# Altium integrated library ST Microcontroller 8-Bit.IntLib: 1326 symbols (part 29 of 45)
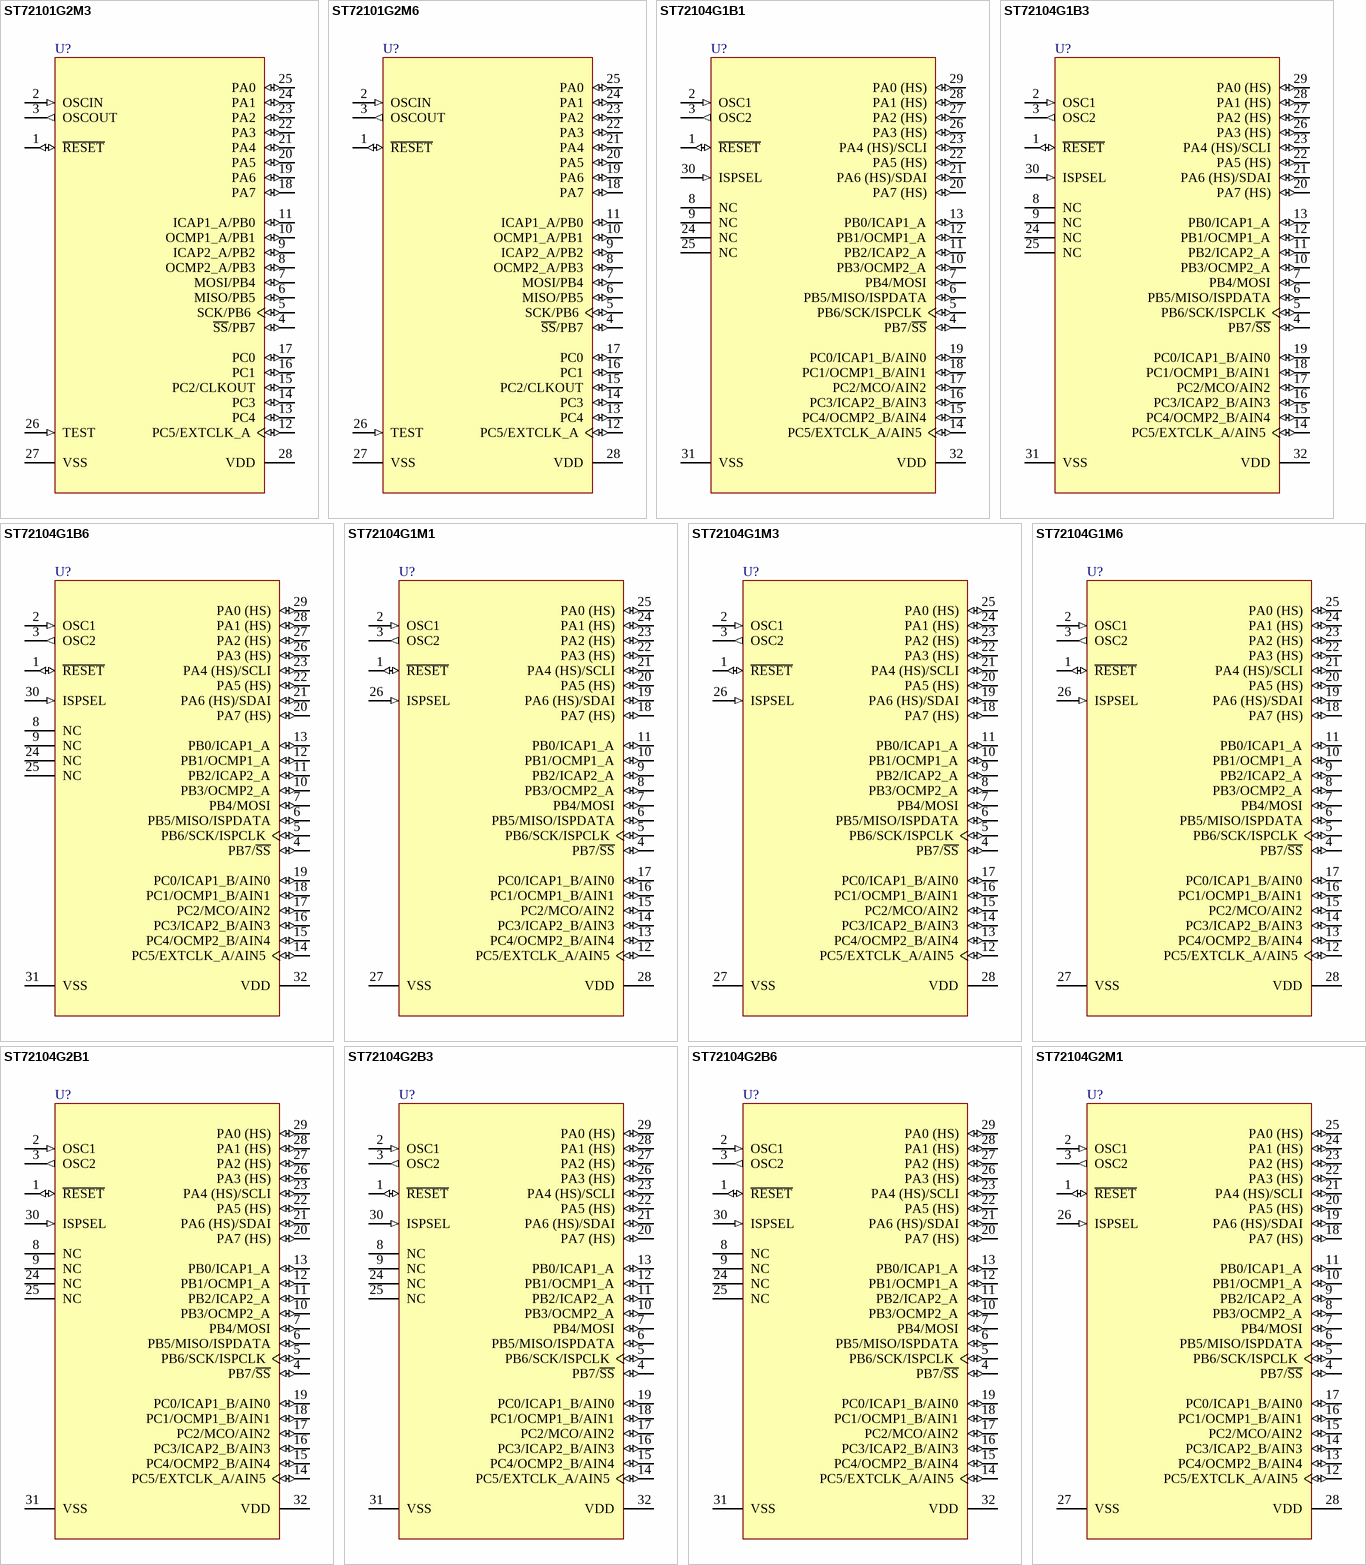
[diagram p195: symbols ST72101G2M3 to ST72104G2M1]

## ST72104G2B6
designator U?
8-Bit 8k ROM MCU, 256b RAM, WDG, 16-Bit Timer, SPI Interface, 32-Pin PDIP, Industrial; Note: Pins 4-7, 14-23 and 26-29 are External Interrupt (EI) pins.; Published: 26-May-2004; LatestRevisionDate: 06-Jun-2005; LatestRevisionNote: Stylized 3D Model Added.; DatasheetVersion: rev2.6, Nov-2000; PackageVersion: rev1.7, Oct-2001; PackageReference: PSDIP32; Publisher: Altium Limited; PackageDescription: DIP, Plastic Shrink; 32 Leads; Row Spacing 10.16 mm; Pitch 1.78 mm; ComponentLink1Description: Manufacturer Link; ComponentLink1URL: http://www.st.com/; ComponentLink2Description: Datasheet; ComponentLink2URL: http://www.st.com/stonline/products/literature/ds/6815/st72104g2.pdf
footprint PSDIP32 (DIP, Plastic Shrink; 32 Leads; Row Spacing 10.16 mm; Pitch 1.78 mm)
3D model PSDIP32 (DIP, Plastic Shrink; 32 Leads; Row Spacing 10.16 mm; Pitch 1.78 mm)
pins: 1 ~{RESET} (io), 2 OSC1 (in), 3 OSC2 (out), 4 PB7/~{SS} (io), 5 PB6/SCK/ISPCLK (io), 6 PB5/MISO/ISPDATA (io), 7 PB4/MOSI (io), 8 NC, 9 NC, 10 PB3/OCMP2_A (io), 11 PB2/ICAP2_A (io), 12 PB1/OCMP1_A (io), 13 PB0/ICAP1_A (io), 14 PC5/EXTCLK_A/AIN5 (io), 15 PC4/OCMP2_B/AIN4 (io), 16 PC3/ICAP2_B/AIN3 (io), 17 PC2/MCO/AIN2 (io), 18 PC1/OCMP1_B/AIN1 (io), 19 PC0/ICAP1_B/AIN0 (io), 20 PA7 (HS) (io), 21 PA6 (HS)/SDAI (io), 22 PA5 (HS) (io), 23 PA4 (HS)/SCLI (io), 24 NC, 25 NC, 26 PA3 (HS) (io), 27 PA2 (HS) (io), 28 PA1 (HS) (io), 29 PA0 (HS) (io), 30 ISPSEL (in), 31 VSS (power), 32 VDD (power)

## ST72104G2M1
designator U?
8-Bit 8k ROM MCU, 256b RAM, WDG, 16-Bit Timer, SPI Interface, 28-Pin SOIC, Standard; Note: Pins 4-25 are External Interrupt (EI) pins.; Published: 26-May-2004; LatestRevisionDate: 13-Apr-2006; LatestRevisionNote: IPC-7351 Footprint Added.; DatasheetVersion: rev2.6, Nov-2000; PackageVersion: Jul-2001; PackageReference: SO28; Publisher: Altium Limited; PackageDescription: 28-Pin Plastic Small Outline Integrated Circuit 1.27 mm Pitch; ComponentLink1Description: Manufacturer Link; ComponentLink1URL: http://www.st.com/; ComponentLink2Description: Datasheet; ComponentLink2URL: http://www.st.com/stonline/products/literature/ds/6815/st72104g2.pdf
footprint SO28_N (SOIC, 28-Leads, Body 17.9x7.5mm, Pitch 1.27mm, IPC Medium Density)
footprint SO28_L (SOIC, 28-Leads, Body 17.9x7.5mm, Pitch 1.27mm, IPC High Density)
footprint SO28_M (SOIC, 28-Leads, Body 17.9x7.5mm, Pitch 1.27mm, IPC Low Density)
3D model SO28 (28-Pin Plastic Small Outline Integrated Circuit 1.27 mm Pitch)
pins: 1 ~{RESET} (io), 2 OSC1 (in), 3 OSC2 (out), 4 PB7/~{SS} (io), 5 PB6/SCK/ISPCLK (io), 6 PB5/MISO/ISPDATA (io), 7 PB4/MOSI (io), 8 PB3/OCMP2_A (io), 9 PB2/ICAP2_A (io), 10 PB1/OCMP1_A (io), 11 PB0/ICAP1_A (io), 12 PC5/EXTCLK_A/AIN5 (io), 13 PC4/OCMP2_B/AIN4 (io), 14 PC3/ICAP2_B/AIN3 (io), 15 PC2/MCO/AIN2 (io), 16 PC1/OCMP1_B/AIN1 (io), 17 PC0/ICAP1_B/AIN0 (io), 18 PA7 (HS) (io), 19 PA6 (HS)/SDAI (io), 20 PA5 (HS) (io), 21 PA4 (HS)/SCLI (io), 22 PA3 (HS) (io), 23 PA2 (HS) (io), 24 PA1 (HS) (io), 25 PA0 (HS) (io), 26 ISPSEL (in), 27 VSS (power), 28 VDD (power)

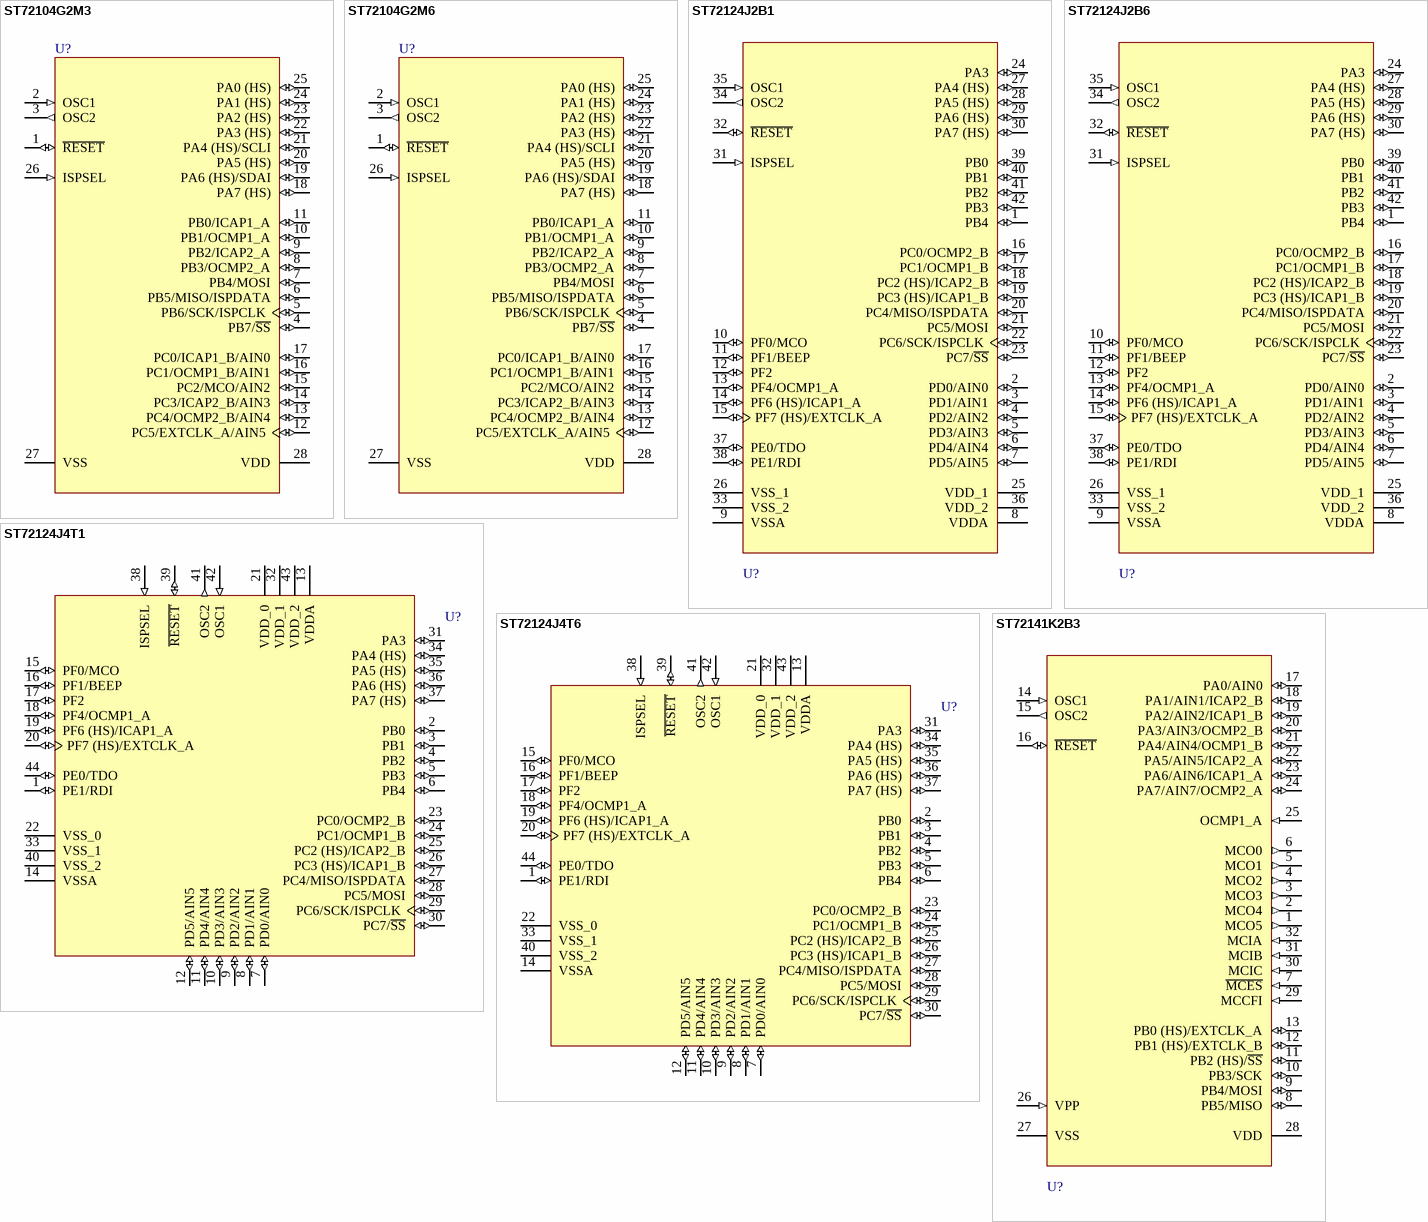
[diagram p97: symbols ST72104G2M3 to ST72141K2B3]

## ST72104G2M3
designator U?
8-Bit 8k ROM MCU, 256b RAM, WDG, 16-Bit Timer, SPI Interface, 28-Pin SOIC, Automotive; Note: Pins 4-25 are External Interrupt (EI) pins.; Published: 26-May-2004; LatestRevisionDate: 13-Apr-2006; LatestRevisionNote: IPC-7351 Footprint Added.; DatasheetVersion: rev2.6, Nov-2000; PackageVersion: Jul-2001; PackageReference: SO28; Publisher: Altium Limited; PackageDescription: 28-Pin Plastic Small Outline Integrated Circuit 1.27 mm Pitch; ComponentLink1Description: Manufacturer Link; ComponentLink1URL: http://www.st.com/; ComponentLink2Description: Datasheet; ComponentLink2URL: http://www.st.com/stonline/products/literature/ds/6815/st72104g2.pdf
footprint SO28_N (SOIC, 28-Leads, Body 17.9x7.5mm, Pitch 1.27mm, IPC Medium Density)
footprint SO28_L (SOIC, 28-Leads, Body 17.9x7.5mm, Pitch 1.27mm, IPC High Density)
footprint SO28_M (SOIC, 28-Leads, Body 17.9x7.5mm, Pitch 1.27mm, IPC Low Density)
3D model SO28 (28-Pin Plastic Small Outline Integrated Circuit 1.27 mm Pitch)
pins: 1 ~{RESET} (io), 2 OSC1 (in), 3 OSC2 (out), 4 PB7/~{SS} (io), 5 PB6/SCK/ISPCLK (io), 6 PB5/MISO/ISPDATA (io), 7 PB4/MOSI (io), 8 PB3/OCMP2_A (io), 9 PB2/ICAP2_A (io), 10 PB1/OCMP1_A (io), 11 PB0/ICAP1_A (io), 12 PC5/EXTCLK_A/AIN5 (io), 13 PC4/OCMP2_B/AIN4 (io), 14 PC3/ICAP2_B/AIN3 (io), 15 PC2/MCO/AIN2 (io), 16 PC1/OCMP1_B/AIN1 (io), 17 PC0/ICAP1_B/AIN0 (io), 18 PA7 (HS) (io), 19 PA6 (HS)/SDAI (io), 20 PA5 (HS) (io), 21 PA4 (HS)/SCLI (io), 22 PA3 (HS) (io), 23 PA2 (HS) (io), 24 PA1 (HS) (io), 25 PA0 (HS) (io), 26 ISPSEL (in), 27 VSS (power), 28 VDD (power)

## ST72104G2M6
designator U?
8-Bit 8k ROM MCU, 256b RAM, WDG, 16-Bit Timer, SPI Interface, 28-Pin SOIC, Industrial; Note: Pins 4-25 are External Interrupt (EI) pins.; Published: 26-May-2004; LatestRevisionDate: 13-Apr-2006; LatestRevisionNote: IPC-7351 Footprint Added.; DatasheetVersion: rev2.6, Nov-2000; PackageVersion: Jul-2001; PackageReference: SO28; Publisher: Altium Limited; PackageDescription: 28-Pin Plastic Small Outline Integrated Circuit 1.27 mm Pitch; ComponentLink1Description: Manufacturer Link; ComponentLink1URL: http://www.st.com/; ComponentLink2Description: Datasheet; ComponentLink2URL: http://www.st.com/stonline/products/literature/ds/6815/st72104g2.pdf
footprint SO28_N (SOIC, 28-Leads, Body 17.9x7.5mm, Pitch 1.27mm, IPC Medium Density)
footprint SO28_L (SOIC, 28-Leads, Body 17.9x7.5mm, Pitch 1.27mm, IPC High Density)
footprint SO28_M (SOIC, 28-Leads, Body 17.9x7.5mm, Pitch 1.27mm, IPC Low Density)
3D model SO28 (28-Pin Plastic Small Outline Integrated Circuit 1.27 mm Pitch)
pins: 1 ~{RESET} (io), 2 OSC1 (in), 3 OSC2 (out), 4 PB7/~{SS} (io), 5 PB6/SCK/ISPCLK (io), 6 PB5/MISO/ISPDATA (io), 7 PB4/MOSI (io), 8 PB3/OCMP2_A (io), 9 PB2/ICAP2_A (io), 10 PB1/OCMP1_A (io), 11 PB0/ICAP1_A (io), 12 PC5/EXTCLK_A/AIN5 (io), 13 PC4/OCMP2_B/AIN4 (io), 14 PC3/ICAP2_B/AIN3 (io), 15 PC2/MCO/AIN2 (io), 16 PC1/OCMP1_B/AIN1 (io), 17 PC0/ICAP1_B/AIN0 (io), 18 PA7 (HS) (io), 19 PA6 (HS)/SDAI (io), 20 PA5 (HS) (io), 21 PA4 (HS)/SCLI (io), 22 PA3 (HS) (io), 23 PA2 (HS) (io), 24 PA1 (HS) (io), 25 PA0 (HS) (io), 26 ISPSEL (in), 27 VSS (power), 28 VDD (power)

## ST72124J2B1
designator U?
8-Bit MCU with 8k ROM, 384b RAM, 16-Bit Timers, SPI and SCI Interface, 42-Pin PDIP, Standard; Note: Pins 1, 10-12, 24 and 39-42 are External Interrupt (EI) pins.; Published: 26-May-2004; LatestRevisionDate: 06-Jun-2005; LatestRevisionNote: Stylized 3D Model Added.; DatasheetVersion: rev2.5, Apr-2003; PackageVersion: Oct-2003; PackageReference: PSDIP42; Publisher: Altium Limited; PackageDescription: DIP, Plastic Shrink; 42 Leads; Row Spacing 15.24 mm; Pitch 1.78 mm; ComponentLink1Description: Manufacturer Link; ComponentLink1URL: http://www.st.com/; ComponentLink2Description: Datasheet; ComponentLink2URL: http://www.st.com/stonline/products/literature/ds/6816/st72124j2.pdf
footprint PSDIP42 (DIP, Plastic Shrink; 42 Leads; Row Spacing 15.24 mm; Pitch 1.78 mm)
3D model PSDIP42 (DIP, Plastic Shrink; 42 Leads; Row Spacing 15.24 mm; Pitch 1.78 mm)
pins: 1 PB4 (io), 2 PD0/AIN0 (io), 3 PD1/AIN1 (io), 4 PD2/AIN2 (io), 5 PD3/AIN3 (io), 6 PD4/AIN4 (io), 7 PD5/AIN5 (io), 8 VDDA (power), 9 VSSA (power), 10 PF0/MCO (io), 11 PF1/BEEP (io), 12 PF2 (io), 13 PF4/OCMP1_A (io), 14 PF6 (HS)/ICAP1_A (io), 15 PF7 (HS)/EXTCLK_A (io), 16 PC0/OCMP2_B (io), 17 PC1/OCMP1_B (io), 18 PC2 (HS)/ICAP2_B (io), 19 PC3 (HS)/ICAP1_B (io), 20 PC4/MISO/ISPDATA (io), 21 PC5/MOSI (io), 22 PC6/SCK/ISPCLK (io), 23 PC7/~{SS} (io), 24 PA3 (io), 25 VDD_1 (power), 26 VSS_1 (power), 27 PA4 (HS) (io), 28 PA5 (HS) (io), 29 PA6 (HS) (io), 30 PA7 (HS) (io), 31 ISPSEL (in), 32 ~{RESET} (io), 33 VSS_2 (power), 34 OSC2 (out), 35 OSC1 (in), 36 VDD_2 (power), 37 PE0/TDO (io), 38 PE1/RDI (io), 39 PB0 (io), 40 PB1 (io), 41 PB2 (io), 42 PB3 (io)

## ST72124J2B6
designator U?
8-Bit MCU with 8k ROM, 384b RAM, 16-Bit Timers, SPI and SCI Interface, 42-Pin PDIP, Industrial; Note: Pins 1, 10-12, 24 and 39-42 are External Interrupt (EI) pins.; Published: 26-May-2004; LatestRevisionDate: 06-Jun-2005; LatestRevisionNote: Stylized 3D Model Added.; DatasheetVersion: rev2.5, Apr-2003; PackageVersion: Oct-2003; PackageReference: PSDIP42; Publisher: Altium Limited; PackageDescription: DIP, Plastic Shrink; 42 Leads; Row Spacing 15.24 mm; Pitch 1.78 mm; ComponentLink1Description: Manufacturer Link; ComponentLink1URL: http://www.st.com/; ComponentLink2Description: Datasheet; ComponentLink2URL: http://www.st.com/stonline/products/literature/ds/6816/st72124j2.pdf
footprint PSDIP42 (DIP, Plastic Shrink; 42 Leads; Row Spacing 15.24 mm; Pitch 1.78 mm)
3D model PSDIP42 (DIP, Plastic Shrink; 42 Leads; Row Spacing 15.24 mm; Pitch 1.78 mm)
pins: 1 PB4 (io), 2 PD0/AIN0 (io), 3 PD1/AIN1 (io), 4 PD2/AIN2 (io), 5 PD3/AIN3 (io), 6 PD4/AIN4 (io), 7 PD5/AIN5 (io), 8 VDDA (power), 9 VSSA (power), 10 PF0/MCO (io), 11 PF1/BEEP (io), 12 PF2 (io), 13 PF4/OCMP1_A (io), 14 PF6 (HS)/ICAP1_A (io), 15 PF7 (HS)/EXTCLK_A (io), 16 PC0/OCMP2_B (io), 17 PC1/OCMP1_B (io), 18 PC2 (HS)/ICAP2_B (io), 19 PC3 (HS)/ICAP1_B (io), 20 PC4/MISO/ISPDATA (io), 21 PC5/MOSI (io), 22 PC6/SCK/ISPCLK (io), 23 PC7/~{SS} (io), 24 PA3 (io), 25 VDD_1 (power), 26 VSS_1 (power), 27 PA4 (HS) (io), 28 PA5 (HS) (io), 29 PA6 (HS) (io), 30 PA7 (HS) (io), 31 ISPSEL (in), 32 ~{RESET} (io), 33 VSS_2 (power), 34 OSC2 (out), 35 OSC1 (in), 36 VDD_2 (power), 37 PE0/TDO (io), 38 PE1/RDI (io), 39 PB0 (io), 40 PB1 (io), 41 PB2 (io), 42 PB3 (io)

## ST72124J4T1
designator U?
8-Bit MCU with 8k ROM, 384b RAM, 16-Bit Timers, SPI and SCI Interface, 44-Pin TQFP, Standard; Note: Pins 2-6, 15-17 and 31 are External Interrupt (EI) pins.; Published: 26-May-2004; LatestRevisionDate: 13-Apr-2006; LatestRevisionNote: IPC-7351 Footprint Added.; DatasheetVersion: rev2.5, Apr-2003; PackageVersion: Oct-2003; PackageReference: TQFP44; Publisher: Altium Limited; PackageDescription: 44-Pin Thin Plastic Quad Flat Pack 0.8 mm Pitch; ComponentLink1Description: Manufacturer Link; ComponentLink1URL: http://www.st.com/; ComponentLink2Description: Datasheet; ComponentLink2URL: http://www.st.com/stonline/products/literature/ds/6816/st72124j2.pdf
footprint TQFP44_N (Thin QFP, 44-Leads, Body 10x10mm, Pitch 0.8mm, IPC Medium Density)
footprint TQFP44_L (Thin QFP, 44-Leads, Body 10x10mm, Pitch 0.8mm, IPC High Density)
footprint TQFP44_M (Thin QFP, 44-Leads, Body 10x10mm, Pitch 0.8mm, IPC Low Density)
3D model ST72124-TQFP44 (44-Pin Thin Plastic Quad Flat Pack 0.8 mm Pitch)
pins: 1 PE1/RDI (io), 2 PB0 (io), 3 PB1 (io), 4 PB2 (io), 5 PB3 (io), 6 PB4 (io), 7 PD0/AIN0 (io), 8 PD1/AIN1 (io), 9 PD2/AIN2 (io), 10 PD3/AIN3 (io), 11 PD4/AIN4 (io), 12 PD5/AIN5 (io), 13 VDDA (power), 14 VSSA (power), 15 PF0/MCO (io), 16 PF1/BEEP (io), 17 PF2 (io), 18 PF4/OCMP1_A (io), 19 PF6 (HS)/ICAP1_A (io), 20 PF7 (HS)/EXTCLK_A (io), 21 VDD_0 (power), 22 VSS_0 (power), 23 PC0/OCMP2_B (io), 24 PC1/OCMP1_B (io), 25 PC2 (HS)/ICAP2_B (io), 26 PC3 (HS)/ICAP1_B (io), 27 PC4/MISO/ISPDATA (io), 28 PC5/MOSI (io), 29 PC6/SCK/ISPCLK (io), 30 PC7/~{SS} (io), 31 PA3 (io), 32 VDD_1 (power), 33 VSS_1 (power), 34 PA4 (HS) (io), 35 PA5 (HS) (io), 36 PA6 (HS) (io), 37 PA7 (HS) (io), 38 ISPSEL (in), 39 ~{RESET} (io), 40 VSS_2 (power), 41 OSC2 (out), 42 OSC1 (in), 43 VDD_2 (power), 44 PE0/TDO (io)

## ST72124J4T6
designator U?
8-Bit MCU with 8k ROM, 384b RAM, 16-Bit Timers, SPI and SCI Interface, 44-Pin TQFP, Industrial; Note: Pins 2-6, 15-17 and 31 are External Interrupt (EI) pins.; Published: 26-May-2004; LatestRevisionDate: 13-Apr-2006; LatestRevisionNote: IPC-7351 Footprint Added.; DatasheetVersion: rev2.5, Apr-2003; PackageVersion: Oct-2003; PackageReference: TQFP44; Publisher: Altium Limited; PackageDescription: 44-Pin Thin Plastic Quad Flat Pack 0.8 mm Pitch; ComponentLink1Description: Manufacturer Link; ComponentLink1URL: http://www.st.com/; ComponentLink2Description: Datasheet; ComponentLink2URL: http://www.st.com/stonline/products/literature/ds/6816/st72124j2.pdf
footprint TQFP44_N (Thin QFP, 44-Leads, Body 10x10mm, Pitch 0.8mm, IPC Medium Density)
footprint TQFP44_L (Thin QFP, 44-Leads, Body 10x10mm, Pitch 0.8mm, IPC High Density)
footprint TQFP44_M (Thin QFP, 44-Leads, Body 10x10mm, Pitch 0.8mm, IPC Low Density)
3D model ST72124-TQFP44 (44-Pin Thin Plastic Quad Flat Pack 0.8 mm Pitch)
pins: 1 PE1/RDI (io), 2 PB0 (io), 3 PB1 (io), 4 PB2 (io), 5 PB3 (io), 6 PB4 (io), 7 PD0/AIN0 (io), 8 PD1/AIN1 (io), 9 PD2/AIN2 (io), 10 PD3/AIN3 (io), 11 PD4/AIN4 (io), 12 PD5/AIN5 (io), 13 VDDA (power), 14 VSSA (power), 15 PF0/MCO (io), 16 PF1/BEEP (io), 17 PF2 (io), 18 PF4/OCMP1_A (io), 19 PF6 (HS)/ICAP1_A (io), 20 PF7 (HS)/EXTCLK_A (io), 21 VDD_0 (power), 22 VSS_0 (power), 23 PC0/OCMP2_B (io), 24 PC1/OCMP1_B (io), 25 PC2 (HS)/ICAP2_B (io), 26 PC3 (HS)/ICAP1_B (io), 27 PC4/MISO/ISPDATA (io), 28 PC5/MOSI (io), 29 PC6/SCK/ISPCLK (io), 30 PC7/~{SS} (io), 31 PA3 (io), 32 VDD_1 (power), 33 VSS_1 (power), 34 PA4 (HS) (io), 35 PA5 (HS) (io), 36 PA6 (HS) (io), 37 PA7 (HS) (io), 38 ISPSEL (in), 39 ~{RESET} (io), 40 VSS_2 (power), 41 OSC2 (out), 42 OSC1 (in), 43 VDD_2 (power), 44 PE0/TDO (io)

## ST72141K2B3
designator U?
8-Bit 8k ROM MCU with Electric Motor Control, ADC, 16-Bit Timers, SPI Interface, 32-Pin PDIP, Automotive; Note: Pins 8-13 and 17-24 are External Interrupt (EI) pins.; Published: 26-May-2004; LatestRevisionDate: 06-Jun-2005; LatestRevisionNote: Stylized 3D Model Added.; DatasheetVersion: rev1.8, Oct-2001; PackageVersion: rev1.7, Oct-2001; PackageReference: PSDIP32; Publisher: Altium Limited; PackageDescription: DIP, Plastic Shrink; 32 Leads; Row Spacing 10.16 mm; Pitch 1.78 mm; ComponentLink1Description: Manufacturer Link; ComponentLink1URL: http://www.st.com/; ComponentLink2Description: Datasheet; ComponentLink2URL: http://www.st.com/stonline/products/literature/ds/6342/st72141k2.pdf
footprint PSDIP32 (DIP, Plastic Shrink; 32 Leads; Row Spacing 10.16 mm; Pitch 1.78 mm)
3D model PSDIP32 (DIP, Plastic Shrink; 32 Leads; Row Spacing 10.16 mm; Pitch 1.78 mm)
pins: 1 MCO5 (out), 2 MCO4 (out), 3 MCO3 (out), 4 MCO2 (out), 5 MCO1 (out), 6 MCO0 (out), 7 ~{MCES} (in), 8 PB5/MISO (io), 9 PB4/MOSI (io), 10 PB3/SCK (io), 11 PB2 (HS)/~{SS} (io), 12 PB1 (HS)/EXTCLK_B (io), 13 PB0 (HS)/EXTCLK_A (io), 14 OSC1 (in), 15 OSC2 (out), 16 ~{RESET} (io), 17 PA0/AIN0 (io), 18 PA1/AIN1/ICAP2_B (io), 19 PA2/AIN2/ICAP1_B (io), 20 PA3/AIN3/OCMP2_B (io), 21 PA4/AIN4/OCMP1_B (io), 22 PA5/AIN5/ICAP2_A (io), 23 PA6/AIN6/ICAP1_A (io), 24 PA7/AIN7/OCMP2_A (io), 25 OCMP1_A (in), 26 VPP (in), 27 VSS (power), 28 VDD (power), 29 MCCFI (in), 30 MCIC (in), 31 MCIB (in), 32 MCIA (in)

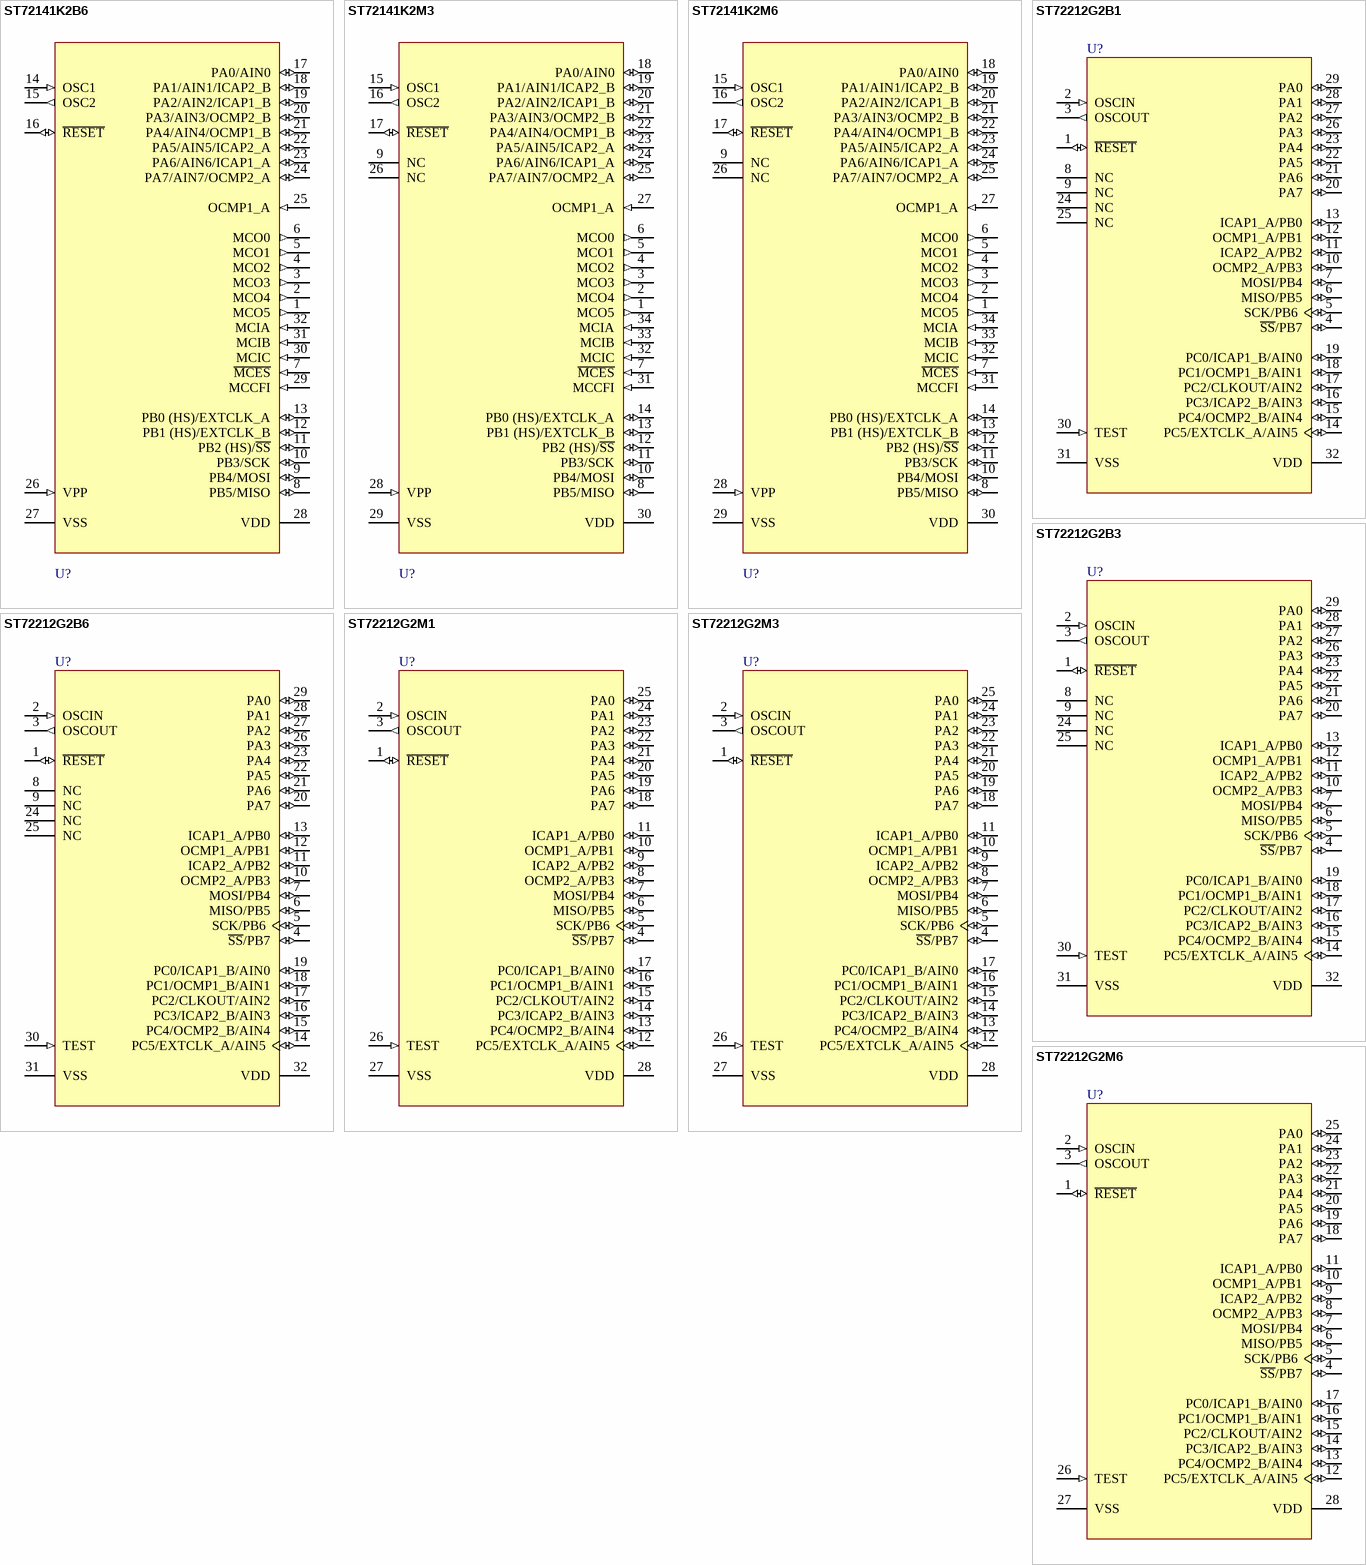
[diagram p98: symbols ST72141K2B6 to ST72212G2M6]

## ST72141K2B6
designator U?
8-Bit 8k ROM MCU with Electric Motor Control, ADC, 16-Bit Timers, SPI Interface, 32-Pin PDIP, Industrial; Note: Pins 8-13 and 17-24 are External Interrupt (EI) pins.; Published: 26-May-2004; LatestRevisionDate: 06-Jun-2005; LatestRevisionNote: Stylized 3D Model Added.; DatasheetVersion: rev1.8, Oct-2001; PackageVersion: rev1.7, Oct-2001; PackageReference: PSDIP32; Publisher: Altium Limited; PackageDescription: DIP, Plastic Shrink; 32 Leads; Row Spacing 10.16 mm; Pitch 1.78 mm; ComponentLink1Description: Manufacturer Link; ComponentLink1URL: http://www.st.com/; ComponentLink2Description: Datasheet; ComponentLink2URL: http://www.st.com/stonline/products/literature/ds/6342/st72141k2.pdf
footprint PSDIP32 (DIP, Plastic Shrink; 32 Leads; Row Spacing 10.16 mm; Pitch 1.78 mm)
3D model PSDIP32 (DIP, Plastic Shrink; 32 Leads; Row Spacing 10.16 mm; Pitch 1.78 mm)
pins: 1 MCO5 (out), 2 MCO4 (out), 3 MCO3 (out), 4 MCO2 (out), 5 MCO1 (out), 6 MCO0 (out), 7 ~{MCES} (in), 8 PB5/MISO (io), 9 PB4/MOSI (io), 10 PB3/SCK (io), 11 PB2 (HS)/~{SS} (io), 12 PB1 (HS)/EXTCLK_B (io), 13 PB0 (HS)/EXTCLK_A (io), 14 OSC1 (in), 15 OSC2 (out), 16 ~{RESET} (io), 17 PA0/AIN0 (io), 18 PA1/AIN1/ICAP2_B (io), 19 PA2/AIN2/ICAP1_B (io), 20 PA3/AIN3/OCMP2_B (io), 21 PA4/AIN4/OCMP1_B (io), 22 PA5/AIN5/ICAP2_A (io), 23 PA6/AIN6/ICAP1_A (io), 24 PA7/AIN7/OCMP2_A (io), 25 OCMP1_A (in), 26 VPP (in), 27 VSS (power), 28 VDD (power), 29 MCCFI (in), 30 MCIC (in), 31 MCIB (in), 32 MCIA (in)

## ST72141K2M3
designator U?
8-Bit 8k ROM MCU with Electric Motor Control, ADC, 16-Bit Timers, SPI Interface, 34-Pin SOIC, Automotive; Note: Pins 8, 10-14 and 18-25 are External Interrupt (EI) pins.; Published: 26-May-2004; LatestRevisionDate: 13-Apr-2006; LatestRevisionNote: IPC-7351 Footprint Added.; DatasheetVersion: rev1.8, Oct-2001; PackageVersion: rev1.7, Oct-2001; PackageReference: SO34S; Publisher: Altium Limited; PackageDescription: 34-Pin Small Outline Package 1.02 mm Pitch; ComponentLink1Description: Manufacturer Link; ComponentLink1URL: http://www.st.com/; ComponentLink2Description: Datasheet; ComponentLink2URL: http://www.st.com/stonline/products/literature/ds/6342/st72141k2.pdf
footprint SO34S_N (SOP, 34-Leads, Body 17.9x7.51mm, Pitch 1.02mm, IPC Medium Density)
footprint SO34S_L (SOP, 34-Leads, Body 17.9x7.51mm, Pitch 1.02mm, IPC High Density)
footprint SO34S_M (SOP, 34-Leads, Body 17.9x7.51mm, Pitch 1.02mm, IPC Low Density)
3D model SO34S (34-Pin Small Outline Package 1.02 mm Pitch)
pins: 1 MCO5 (out), 2 MCO4 (out), 3 MCO3 (out), 4 MCO2 (out), 5 MCO1 (out), 6 MCO0 (out), 7 ~{MCES} (in), 8 PB5/MISO (io), 9 NC, 10 PB4/MOSI (io), 11 PB3/SCK (io), 12 PB2 (HS)/~{SS} (io), 13 PB1 (HS)/EXTCLK_B (io), 14 PB0 (HS)/EXTCLK_A (io), 15 OSC1 (in), 16 OSC2 (out), 17 ~{RESET} (io), 18 PA0/AIN0 (io), 19 PA1/AIN1/ICAP2_B (io), 20 PA2/AIN2/ICAP1_B (io), 21 PA3/AIN3/OCMP2_B (io), 22 PA4/AIN4/OCMP1_B (io), 23 PA5/AIN5/ICAP2_A (io), 24 PA6/AIN6/ICAP1_A (io), 25 PA7/AIN7/OCMP2_A (io), 26 NC, 27 OCMP1_A (in), 28 VPP (in), 29 VSS (power), 30 VDD (power), 31 MCCFI (in), 32 MCIC (in), 33 MCIB (in), 34 MCIA (in)

## ST72141K2M6
designator U?
8-Bit 8k ROM MCU with Electric Motor Control, ADC, 16-Bit Timers, SPI Interface, 34-Pin SOIC, Industrial; Note: Pins 8, 10-14 and 18-25 are External Interrupt (EI) pins.; Published: 26-May-2004; LatestRevisionDate: 13-Apr-2006; LatestRevisionNote: IPC-7351 Footprint Added.; DatasheetVersion: rev1.8, Oct-2001; PackageVersion: rev1.7, Oct-2001; PackageReference: SO34S; Publisher: Altium Limited; PackageDescription: 34-Pin Small Outline Package 1.02 mm Pitch; ComponentLink1Description: Manufacturer Link; ComponentLink1URL: http://www.st.com/; ComponentLink2Description: Datasheet; ComponentLink2URL: http://www.st.com/stonline/products/literature/ds/6342/st72141k2.pdf
footprint SO34S_N (SOP, 34-Leads, Body 17.9x7.51mm, Pitch 1.02mm, IPC Medium Density)
footprint SO34S_L (SOP, 34-Leads, Body 17.9x7.51mm, Pitch 1.02mm, IPC High Density)
footprint SO34S_M (SOP, 34-Leads, Body 17.9x7.51mm, Pitch 1.02mm, IPC Low Density)
3D model SO34S (34-Pin Small Outline Package 1.02 mm Pitch)
pins: 1 MCO5 (out), 2 MCO4 (out), 3 MCO3 (out), 4 MCO2 (out), 5 MCO1 (out), 6 MCO0 (out), 7 ~{MCES} (in), 8 PB5/MISO (io), 9 NC, 10 PB4/MOSI (io), 11 PB3/SCK (io), 12 PB2 (HS)/~{SS} (io), 13 PB1 (HS)/EXTCLK_B (io), 14 PB0 (HS)/EXTCLK_A (io), 15 OSC1 (in), 16 OSC2 (out), 17 ~{RESET} (io), 18 PA0/AIN0 (io), 19 PA1/AIN1/ICAP2_B (io), 20 PA2/AIN2/ICAP1_B (io), 21 PA3/AIN3/OCMP2_B (io), 22 PA4/AIN4/OCMP1_B (io), 23 PA5/AIN5/ICAP2_A (io), 24 PA6/AIN6/ICAP1_A (io), 25 PA7/AIN7/OCMP2_A (io), 26 NC, 27 OCMP1_A (in), 28 VPP (in), 29 VSS (power), 30 VDD (power), 31 MCCFI (in), 32 MCIC (in), 33 MCIB (in), 34 MCIA (in)

## ST72212G2B1
designator U?
8-Bit 8k ROM MCU with 256b RAM, ADC, WDG, SPI and Two Timers, 32-Pin PDIP, Standard; Published: 26-May-2004; LatestRevisionDate: 06-Jun-2005; LatestRevisionNote: Stylized 3D Model Added.; DatasheetVersion: rev1.8, May-2001; PackageVersion: rev1.7, Oct-2001; PackageReference: PSDIP32; Publisher: Altium Limited; PackageDescription: DIP, Plastic Shrink; 32 Leads; Row Spacing 10.16 mm; Pitch 1.78 mm; ComponentLink1Description: Manufacturer Link; ComponentLink1URL: http://www.st.com/; ComponentLink2Description: Datasheet; ComponentLink2URL: http://www.st.com/stonline/products/literature/ds/5762/st72212g2.pdf
footprint PSDIP32 (DIP, Plastic Shrink; 32 Leads; Row Spacing 10.16 mm; Pitch 1.78 mm)
3D model PSDIP32 (DIP, Plastic Shrink; 32 Leads; Row Spacing 10.16 mm; Pitch 1.78 mm)
pins: 1 ~{RESET} (io), 2 OSCIN (in), 3 OSCOUT (out), 4 ~{SS}/PB7 (io), 5 SCK/PB6 (io), 6 MISO/PB5 (io), 7 MOSI/PB4 (io), 8 NC, 9 NC, 10 OCMP2_A/PB3 (io), 11 ICAP2_A/PB2 (io), 12 OCMP1_A/PB1 (io), 13 ICAP1_A/PB0 (io), 14 PC5/EXTCLK_A/AIN5 (io), 15 PC4/OCMP2_B/AIN4 (io), 16 PC3/ICAP2_B/AIN3 (io), 17 PC2/CLKOUT/AIN2 (io), 18 PC1/OCMP1_B/AIN1 (io), 19 PC0/ICAP1_B/AIN0 (io), 20 PA7 (io), 21 PA6 (io), 22 PA5 (io), 23 PA4 (io), 24 NC, 25 NC, 26 PA3 (io), 27 PA2 (io), 28 PA1 (io), 29 PA0 (io), 30 TEST (in), 31 VSS (power), 32 VDD (power)

## ST72212G2B3
designator U?
8-Bit 8k ROM MCU with 256b RAM, ADC, WDG, SPI and Two Timers, 32-Pin PDIP, Automotive; Published: 26-May-2004; LatestRevisionDate: 06-Jun-2005; LatestRevisionNote: Stylized 3D Model Added.; DatasheetVersion: rev1.8, May-2001; PackageVersion: rev1.7, Oct-2001; PackageReference: PSDIP32; Publisher: Altium Limited; PackageDescription: DIP, Plastic Shrink; 32 Leads; Row Spacing 10.16 mm; Pitch 1.78 mm; ComponentLink1Description: Manufacturer Link; ComponentLink1URL: http://www.st.com/; ComponentLink2Description: Datasheet; ComponentLink2URL: http://www.st.com/stonline/products/literature/ds/5762/st72212g2.pdf
footprint PSDIP32 (DIP, Plastic Shrink; 32 Leads; Row Spacing 10.16 mm; Pitch 1.78 mm)
3D model PSDIP32 (DIP, Plastic Shrink; 32 Leads; Row Spacing 10.16 mm; Pitch 1.78 mm)
pins: 1 ~{RESET} (io), 2 OSCIN (in), 3 OSCOUT (out), 4 ~{SS}/PB7 (io), 5 SCK/PB6 (io), 6 MISO/PB5 (io), 7 MOSI/PB4 (io), 8 NC, 9 NC, 10 OCMP2_A/PB3 (io), 11 ICAP2_A/PB2 (io), 12 OCMP1_A/PB1 (io), 13 ICAP1_A/PB0 (io), 14 PC5/EXTCLK_A/AIN5 (io), 15 PC4/OCMP2_B/AIN4 (io), 16 PC3/ICAP2_B/AIN3 (io), 17 PC2/CLKOUT/AIN2 (io), 18 PC1/OCMP1_B/AIN1 (io), 19 PC0/ICAP1_B/AIN0 (io), 20 PA7 (io), 21 PA6 (io), 22 PA5 (io), 23 PA4 (io), 24 NC, 25 NC, 26 PA3 (io), 27 PA2 (io), 28 PA1 (io), 29 PA0 (io), 30 TEST (in), 31 VSS (power), 32 VDD (power)

## ST72212G2B6
designator U?
8-Bit 8k ROM MCU with 256b RAM, ADC, WDG, SPI and Two Timers, 32-Pin PDIP, Industrial; Published: 26-May-2004; LatestRevisionDate: 06-Jun-2005; LatestRevisionNote: Stylized 3D Model Added.; DatasheetVersion: rev1.8, May-2001; PackageVersion: rev1.7, Oct-2001; PackageReference: PSDIP32; Publisher: Altium Limited; PackageDescription: DIP, Plastic Shrink; 32 Leads; Row Spacing 10.16 mm; Pitch 1.78 mm; ComponentLink1Description: Manufacturer Link; ComponentLink1URL: http://www.st.com/; ComponentLink2Description: Datasheet; ComponentLink2URL: http://www.st.com/stonline/products/literature/ds/5762/st72212g2.pdf
footprint PSDIP32 (DIP, Plastic Shrink; 32 Leads; Row Spacing 10.16 mm; Pitch 1.78 mm)
3D model PSDIP32 (DIP, Plastic Shrink; 32 Leads; Row Spacing 10.16 mm; Pitch 1.78 mm)
pins: 1 ~{RESET} (io), 2 OSCIN (in), 3 OSCOUT (out), 4 ~{SS}/PB7 (io), 5 SCK/PB6 (io), 6 MISO/PB5 (io), 7 MOSI/PB4 (io), 8 NC, 9 NC, 10 OCMP2_A/PB3 (io), 11 ICAP2_A/PB2 (io), 12 OCMP1_A/PB1 (io), 13 ICAP1_A/PB0 (io), 14 PC5/EXTCLK_A/AIN5 (io), 15 PC4/OCMP2_B/AIN4 (io), 16 PC3/ICAP2_B/AIN3 (io), 17 PC2/CLKOUT/AIN2 (io), 18 PC1/OCMP1_B/AIN1 (io), 19 PC0/ICAP1_B/AIN0 (io), 20 PA7 (io), 21 PA6 (io), 22 PA5 (io), 23 PA4 (io), 24 NC, 25 NC, 26 PA3 (io), 27 PA2 (io), 28 PA1 (io), 29 PA0 (io), 30 TEST (in), 31 VSS (power), 32 VDD (power)

## ST72212G2M1
designator U?
8-Bit 8k ROM MCU with 256b RAM, ADC, WDG, SPI and Two Timers, 28-Pin SOIC, Standard; Published: 26-May-2004; LatestRevisionDate: 13-Apr-2006; LatestRevisionNote: IPC-7351 Footprint Added.; DatasheetVersion: rev1.8, May-2001; PackageVersion: Jul-2001; PackageReference: SO28; Publisher: Altium Limited; PackageDescription: 28-Pin Plastic Small Outline Integrated Circuit 1.27 mm Pitch; ComponentLink1Description: Manufacturer Link; ComponentLink1URL: http://www.st.com/; ComponentLink2Description: Datasheet; ComponentLink2URL: http://www.st.com/stonline/products/literature/ds/5762/st72212g2.pdf
footprint SO28_N (SOIC, 28-Leads, Body 17.9x7.5mm, Pitch 1.27mm, IPC Medium Density)
footprint SO28_L (SOIC, 28-Leads, Body 17.9x7.5mm, Pitch 1.27mm, IPC High Density)
footprint SO28_M (SOIC, 28-Leads, Body 17.9x7.5mm, Pitch 1.27mm, IPC Low Density)
3D model SO28 (28-Pin Plastic Small Outline Integrated Circuit 1.27 mm Pitch)
pins: 1 ~{RESET} (io), 2 OSCIN (in), 3 OSCOUT (out), 4 ~{SS}/PB7 (io), 5 SCK/PB6 (io), 6 MISO/PB5 (io), 7 MOSI/PB4 (io), 8 OCMP2_A/PB3 (io), 9 ICAP2_A/PB2 (io), 10 OCMP1_A/PB1 (io), 11 ICAP1_A/PB0 (io), 12 PC5/EXTCLK_A/AIN5 (io), 13 PC4/OCMP2_B/AIN4 (io), 14 PC3/ICAP2_B/AIN3 (io), 15 PC2/CLKOUT/AIN2 (io), 16 PC1/OCMP1_B/AIN1 (io), 17 PC0/ICAP1_B/AIN0 (io), 18 PA7 (io), 19 PA6 (io), 20 PA5 (io), 21 PA4 (io), 22 PA3 (io), 23 PA2 (io), 24 PA1 (io), 25 PA0 (io), 26 TEST (in), 27 VSS (power), 28 VDD (power)

## ST72212G2M3
designator U?
8-Bit 8k ROM MCU with 256b RAM, ADC, WDG, SPI and Two Timers, 28-Pin SOIC, Automotive; Published: 26-May-2004; LatestRevisionDate: 13-Apr-2006; LatestRevisionNote: IPC-7351 Footprint Added.; DatasheetVersion: rev1.8, May-2001; PackageVersion: Jul-2001; PackageReference: SO28; Publisher: Altium Limited; PackageDescription: 28-Pin Plastic Small Outline Integrated Circuit 1.27 mm Pitch; ComponentLink1Description: Manufacturer Link; ComponentLink1URL: http://www.st.com/; ComponentLink2Description: Datasheet; ComponentLink2URL: http://www.st.com/stonline/products/literature/ds/5762/st72212g2.pdf
footprint SO28_N (SOIC, 28-Leads, Body 17.9x7.5mm, Pitch 1.27mm, IPC Medium Density)
footprint SO28_L (SOIC, 28-Leads, Body 17.9x7.5mm, Pitch 1.27mm, IPC High Density)
footprint SO28_M (SOIC, 28-Leads, Body 17.9x7.5mm, Pitch 1.27mm, IPC Low Density)
3D model SO28 (28-Pin Plastic Small Outline Integrated Circuit 1.27 mm Pitch)
pins: 1 ~{RESET} (io), 2 OSCIN (in), 3 OSCOUT (out), 4 ~{SS}/PB7 (io), 5 SCK/PB6 (io), 6 MISO/PB5 (io), 7 MOSI/PB4 (io), 8 OCMP2_A/PB3 (io), 9 ICAP2_A/PB2 (io), 10 OCMP1_A/PB1 (io), 11 ICAP1_A/PB0 (io), 12 PC5/EXTCLK_A/AIN5 (io), 13 PC4/OCMP2_B/AIN4 (io), 14 PC3/ICAP2_B/AIN3 (io), 15 PC2/CLKOUT/AIN2 (io), 16 PC1/OCMP1_B/AIN1 (io), 17 PC0/ICAP1_B/AIN0 (io), 18 PA7 (io), 19 PA6 (io), 20 PA5 (io), 21 PA4 (io), 22 PA3 (io), 23 PA2 (io), 24 PA1 (io), 25 PA0 (io), 26 TEST (in), 27 VSS (power), 28 VDD (power)

## ST72212G2M6
designator U?
8-Bit 8k ROM MCU with 256b RAM, ADC, WDG, SPI and Two Timers, 28-Pin SOIC, Industrial; Published: 26-May-2004; LatestRevisionDate: 13-Apr-2006; LatestRevisionNote: IPC-7351 Footprint Added.; DatasheetVersion: rev1.8, May-2001; PackageVersion: Jul-2001; PackageReference: SO28; Publisher: Altium Limited; PackageDescription: 28-Pin Plastic Small Outline Integrated Circuit 1.27 mm Pitch; ComponentLink1Description: Manufacturer Link; ComponentLink1URL: http://www.st.com/; ComponentLink2Description: Datasheet; ComponentLink2URL: http://www.st.com/stonline/products/literature/ds/5762/st72212g2.pdf
footprint SO28_N (SOIC, 28-Leads, Body 17.9x7.5mm, Pitch 1.27mm, IPC Medium Density)
footprint SO28_L (SOIC, 28-Leads, Body 17.9x7.5mm, Pitch 1.27mm, IPC High Density)
footprint SO28_M (SOIC, 28-Leads, Body 17.9x7.5mm, Pitch 1.27mm, IPC Low Density)
3D model SO28 (28-Pin Plastic Small Outline Integrated Circuit 1.27 mm Pitch)
pins: 1 ~{RESET} (io), 2 OSCIN (in), 3 OSCOUT (out), 4 ~{SS}/PB7 (io), 5 SCK/PB6 (io), 6 MISO/PB5 (io), 7 MOSI/PB4 (io), 8 OCMP2_A/PB3 (io), 9 ICAP2_A/PB2 (io), 10 OCMP1_A/PB1 (io), 11 ICAP1_A/PB0 (io), 12 PC5/EXTCLK_A/AIN5 (io), 13 PC4/OCMP2_B/AIN4 (io), 14 PC3/ICAP2_B/AIN3 (io), 15 PC2/CLKOUT/AIN2 (io), 16 PC1/OCMP1_B/AIN1 (io), 17 PC0/ICAP1_B/AIN0 (io), 18 PA7 (io), 19 PA6 (io), 20 PA5 (io), 21 PA4 (io), 22 PA3 (io), 23 PA2 (io), 24 PA1 (io), 25 PA0 (io), 26 TEST (in), 27 VSS (power), 28 VDD (power)

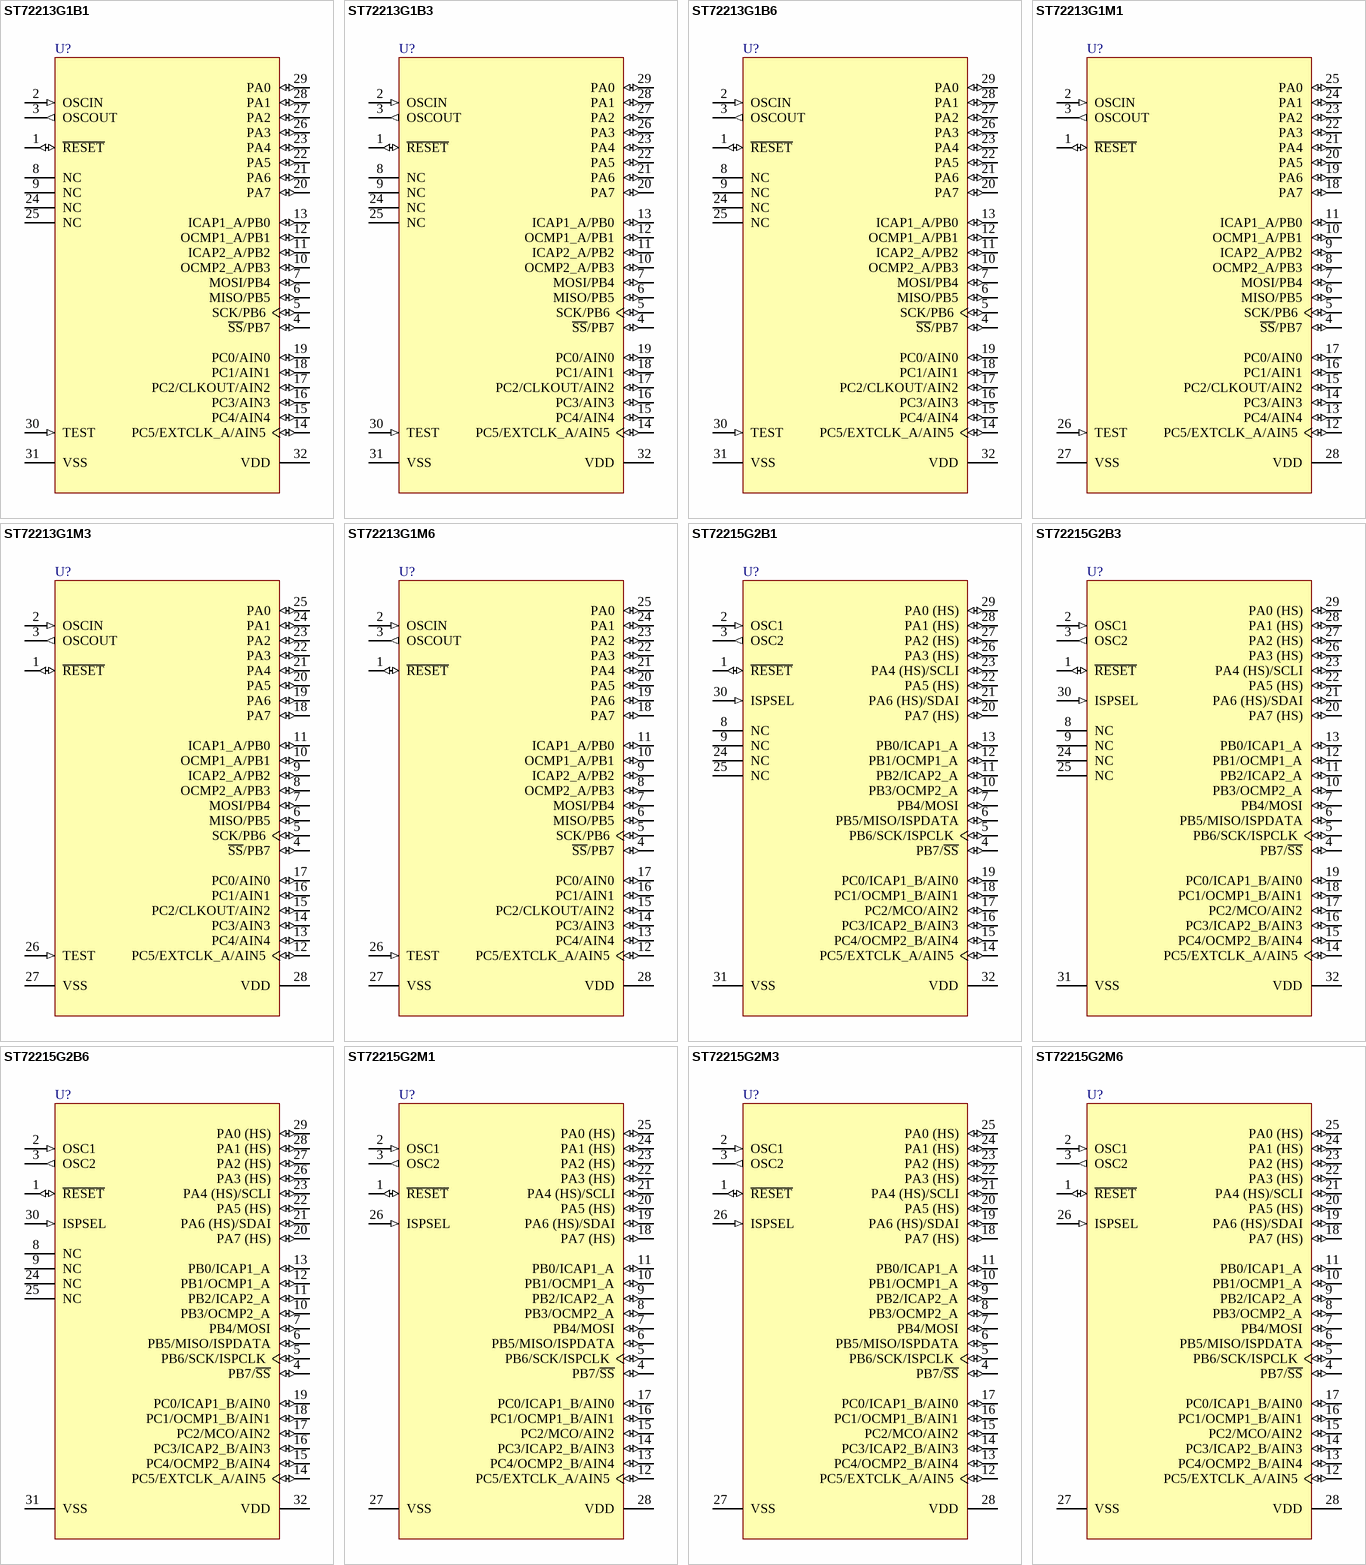
[diagram p99: symbols ST72213G1B1 to ST72215G2M6]

## ST72213G1B1
designator U?
8-Bit 4k ROM MCU with 256b RAM, ADC, WDG, SPI and One Timer, 32-Pin PDIP, Standard; Published: 26-May-2004; LatestRevisionDate: 06-Jun-2005; LatestRevisionNote: Stylized 3D Model Added.; DatasheetVersion: rev1.8, May-2001; PackageVersion: rev1.7, Oct-2001; PackageReference: PSDIP32; Publisher: Altium Limited; PackageDescription: DIP, Plastic Shrink; 32 Leads; Row Spacing 10.16 mm; Pitch 1.78 mm; ComponentLink1Description: Manufacturer Link; ComponentLink1URL: http://www.st.com/; ComponentLink2Description: Datasheet; ComponentLink2URL: http://www.st.com/stonline/products/literature/ds/5762/st72213g1.pdf
footprint PSDIP32 (DIP, Plastic Shrink; 32 Leads; Row Spacing 10.16 mm; Pitch 1.78 mm)
3D model PSDIP32 (DIP, Plastic Shrink; 32 Leads; Row Spacing 10.16 mm; Pitch 1.78 mm)
pins: 1 ~{RESET} (io), 2 OSCIN (in), 3 OSCOUT (out), 4 ~{SS}/PB7 (io), 5 SCK/PB6 (io), 6 MISO/PB5 (io), 7 MOSI/PB4 (io), 8 NC, 9 NC, 10 OCMP2_A/PB3 (io), 11 ICAP2_A/PB2 (io), 12 OCMP1_A/PB1 (io), 13 ICAP1_A/PB0 (io), 14 PC5/EXTCLK_A/AIN5 (io), 15 PC4/AIN4 (io), 16 PC3/AIN3 (io), 17 PC2/CLKOUT/AIN2 (io), 18 PC1/AIN1 (io), 19 PC0/AIN0 (io), 20 PA7 (io), 21 PA6 (io), 22 PA5 (io), 23 PA4 (io), 24 NC, 25 NC, 26 PA3 (io), 27 PA2 (io), 28 PA1 (io), 29 PA0 (io), 30 TEST (in), 31 VSS (power), 32 VDD (power)

## ST72213G1B3
designator U?
8-Bit 4k ROM MCU with 256b RAM, ADC, WDG, SPI and One Timer, 32-Pin PDIP, Automotive; Published: 26-May-2004; LatestRevisionDate: 06-Jun-2005; LatestRevisionNote: Stylized 3D Model Added.; DatasheetVersion: rev1.8, May-2001; PackageVersion: rev1.7, Oct-2001; PackageReference: PSDIP32; Publisher: Altium Limited; PackageDescription: DIP, Plastic Shrink; 32 Leads; Row Spacing 10.16 mm; Pitch 1.78 mm; ComponentLink1Description: Manufacturer Link; ComponentLink1URL: http://www.st.com/; ComponentLink2Description: Datasheet; ComponentLink2URL: http://www.st.com/stonline/products/literature/ds/5762/st72213g1.pdf
footprint PSDIP32 (DIP, Plastic Shrink; 32 Leads; Row Spacing 10.16 mm; Pitch 1.78 mm)
3D model PSDIP32 (DIP, Plastic Shrink; 32 Leads; Row Spacing 10.16 mm; Pitch 1.78 mm)
pins: 1 ~{RESET} (io), 2 OSCIN (in), 3 OSCOUT (out), 4 ~{SS}/PB7 (io), 5 SCK/PB6 (io), 6 MISO/PB5 (io), 7 MOSI/PB4 (io), 8 NC, 9 NC, 10 OCMP2_A/PB3 (io), 11 ICAP2_A/PB2 (io), 12 OCMP1_A/PB1 (io), 13 ICAP1_A/PB0 (io), 14 PC5/EXTCLK_A/AIN5 (io), 15 PC4/AIN4 (io), 16 PC3/AIN3 (io), 17 PC2/CLKOUT/AIN2 (io), 18 PC1/AIN1 (io), 19 PC0/AIN0 (io), 20 PA7 (io), 21 PA6 (io), 22 PA5 (io), 23 PA4 (io), 24 NC, 25 NC, 26 PA3 (io), 27 PA2 (io), 28 PA1 (io), 29 PA0 (io), 30 TEST (in), 31 VSS (power), 32 VDD (power)

## ST72213G1B6
designator U?
8-Bit 4k ROM MCU with 256b RAM, ADC, WDG, SPI and One Timer, 32-Pin PDIP, Industrial; Published: 26-May-2004; LatestRevisionDate: 06-Jun-2005; LatestRevisionNote: Stylized 3D Model Added.; DatasheetVersion: rev1.8, May-2001; PackageVersion: rev1.7, Oct-2001; PackageReference: PSDIP32; Publisher: Altium Limited; PackageDescription: DIP, Plastic Shrink; 32 Leads; Row Spacing 10.16 mm; Pitch 1.78 mm; ComponentLink1Description: Manufacturer Link; ComponentLink1URL: http://www.st.com/; ComponentLink2Description: Datasheet; ComponentLink2URL: http://www.st.com/stonline/products/literature/ds/5762/st72213g1.pdf
footprint PSDIP32 (DIP, Plastic Shrink; 32 Leads; Row Spacing 10.16 mm; Pitch 1.78 mm)
3D model PSDIP32 (DIP, Plastic Shrink; 32 Leads; Row Spacing 10.16 mm; Pitch 1.78 mm)
pins: 1 ~{RESET} (io), 2 OSCIN (in), 3 OSCOUT (out), 4 ~{SS}/PB7 (io), 5 SCK/PB6 (io), 6 MISO/PB5 (io), 7 MOSI/PB4 (io), 8 NC, 9 NC, 10 OCMP2_A/PB3 (io), 11 ICAP2_A/PB2 (io), 12 OCMP1_A/PB1 (io), 13 ICAP1_A/PB0 (io), 14 PC5/EXTCLK_A/AIN5 (io), 15 PC4/AIN4 (io), 16 PC3/AIN3 (io), 17 PC2/CLKOUT/AIN2 (io), 18 PC1/AIN1 (io), 19 PC0/AIN0 (io), 20 PA7 (io), 21 PA6 (io), 22 PA5 (io), 23 PA4 (io), 24 NC, 25 NC, 26 PA3 (io), 27 PA2 (io), 28 PA1 (io), 29 PA0 (io), 30 TEST (in), 31 VSS (power), 32 VDD (power)

## ST72213G1M1
designator U?
8-Bit 4k ROM MCU with 256b RAM, ADC, WDG, SPI and One Timer, 28-Pin SOIC, Standard; Published: 26-May-2004; LatestRevisionDate: 13-Apr-2006; LatestRevisionNote: IPC-7351 Footprint Added.; DatasheetVersion: rev1.8, May-2001; PackageVersion: Jul-2001; PackageReference: SO28; Publisher: Altium Limited; PackageDescription: 28-Pin Plastic Small Outline Integrated Circuit 1.27 mm Pitch; ComponentLink1Description: Manufacturer Link; ComponentLink1URL: http://www.st.com/; ComponentLink2Description: Datasheet; ComponentLink2URL: http://www.st.com/stonline/products/literature/ds/5762/st72213g1.pdf
footprint SO28_N (SOIC, 28-Leads, Body 17.9x7.5mm, Pitch 1.27mm, IPC Medium Density)
footprint SO28_L (SOIC, 28-Leads, Body 17.9x7.5mm, Pitch 1.27mm, IPC High Density)
footprint SO28_M (SOIC, 28-Leads, Body 17.9x7.5mm, Pitch 1.27mm, IPC Low Density)
3D model SO28 (28-Pin Plastic Small Outline Integrated Circuit 1.27 mm Pitch)
pins: 1 ~{RESET} (io), 2 OSCIN (in), 3 OSCOUT (out), 4 ~{SS}/PB7 (io), 5 SCK/PB6 (io), 6 MISO/PB5 (io), 7 MOSI/PB4 (io), 8 OCMP2_A/PB3 (io), 9 ICAP2_A/PB2 (io), 10 OCMP1_A/PB1 (io), 11 ICAP1_A/PB0 (io), 12 PC5/EXTCLK_A/AIN5 (io), 13 PC4/AIN4 (io), 14 PC3/AIN3 (io), 15 PC2/CLKOUT/AIN2 (io), 16 PC1/AIN1 (io), 17 PC0/AIN0 (io), 18 PA7 (io), 19 PA6 (io), 20 PA5 (io), 21 PA4 (io), 22 PA3 (io), 23 PA2 (io), 24 PA1 (io), 25 PA0 (io), 26 TEST (in), 27 VSS (power), 28 VDD (power)

## ST72213G1M3
designator U?
8-Bit 4k ROM MCU with 256b RAM, ADC, WDG, SPI and One Timer, 28-Pin SOIC, Automotive; Published: 26-May-2004; LatestRevisionDate: 13-Apr-2006; LatestRevisionNote: IPC-7351 Footprint Added.; DatasheetVersion: rev1.8, May-2001; PackageVersion: Jul-2001; PackageReference: SO28; Publisher: Altium Limited; PackageDescription: 28-Pin Plastic Small Outline Integrated Circuit 1.27 mm Pitch; ComponentLink1Description: Manufacturer Link; ComponentLink1URL: http://www.st.com/; ComponentLink2Description: Datasheet; ComponentLink2URL: http://www.st.com/stonline/products/literature/ds/5762/st72213g1.pdf
footprint SO28_N (SOIC, 28-Leads, Body 17.9x7.5mm, Pitch 1.27mm, IPC Medium Density)
footprint SO28_L (SOIC, 28-Leads, Body 17.9x7.5mm, Pitch 1.27mm, IPC High Density)
footprint SO28_M (SOIC, 28-Leads, Body 17.9x7.5mm, Pitch 1.27mm, IPC Low Density)
3D model SO28 (28-Pin Plastic Small Outline Integrated Circuit 1.27 mm Pitch)
pins: 1 ~{RESET} (io), 2 OSCIN (in), 3 OSCOUT (out), 4 ~{SS}/PB7 (io), 5 SCK/PB6 (io), 6 MISO/PB5 (io), 7 MOSI/PB4 (io), 8 OCMP2_A/PB3 (io), 9 ICAP2_A/PB2 (io), 10 OCMP1_A/PB1 (io), 11 ICAP1_A/PB0 (io), 12 PC5/EXTCLK_A/AIN5 (io), 13 PC4/AIN4 (io), 14 PC3/AIN3 (io), 15 PC2/CLKOUT/AIN2 (io), 16 PC1/AIN1 (io), 17 PC0/AIN0 (io), 18 PA7 (io), 19 PA6 (io), 20 PA5 (io), 21 PA4 (io), 22 PA3 (io), 23 PA2 (io), 24 PA1 (io), 25 PA0 (io), 26 TEST (in), 27 VSS (power), 28 VDD (power)

## ST72213G1M6
designator U?
8-Bit 4k ROM MCU with 256b RAM, ADC, WDG, SPI and One Timer, 28-Pin SOIC, Industrial; Published: 26-May-2004; LatestRevisionDate: 13-Apr-2006; LatestRevisionNote: IPC-7351 Footprint Added.; DatasheetVersion: rev1.8, May-2001; PackageVersion: Jul-2001; PackageReference: SO28; Publisher: Altium Limited; PackageDescription: 28-Pin Plastic Small Outline Integrated Circuit 1.27 mm Pitch; ComponentLink1Description: Manufacturer Link; ComponentLink1URL: http://www.st.com/; ComponentLink2Description: Datasheet; ComponentLink2URL: http://www.st.com/stonline/products/literature/ds/5762/st72213g1.pdf
footprint SO28_N (SOIC, 28-Leads, Body 17.9x7.5mm, Pitch 1.27mm, IPC Medium Density)
footprint SO28_L (SOIC, 28-Leads, Body 17.9x7.5mm, Pitch 1.27mm, IPC High Density)
footprint SO28_M (SOIC, 28-Leads, Body 17.9x7.5mm, Pitch 1.27mm, IPC Low Density)
3D model SO28 (28-Pin Plastic Small Outline Integrated Circuit 1.27 mm Pitch)
pins: 1 ~{RESET} (io), 2 OSCIN (in), 3 OSCOUT (out), 4 ~{SS}/PB7 (io), 5 SCK/PB6 (io), 6 MISO/PB5 (io), 7 MOSI/PB4 (io), 8 OCMP2_A/PB3 (io), 9 ICAP2_A/PB2 (io), 10 OCMP1_A/PB1 (io), 11 ICAP1_A/PB0 (io), 12 PC5/EXTCLK_A/AIN5 (io), 13 PC4/AIN4 (io), 14 PC3/AIN3 (io), 15 PC2/CLKOUT/AIN2 (io), 16 PC1/AIN1 (io), 17 PC0/AIN0 (io), 18 PA7 (io), 19 PA6 (io), 20 PA5 (io), 21 PA4 (io), 22 PA3 (io), 23 PA2 (io), 24 PA1 (io), 25 PA0 (io), 26 TEST (in), 27 VSS (power), 28 VDD (power)

## ST72215G2B1
designator U?
8-Bit 8k ROM MCU, 256b RAM, WDG, ADC, 16-Bit Timers, SPI Interface, 32-Pin PDIP, Standard; Note: Pins 4-7, 14-23 and 26-29 are External Interrupt (EI) pins.; Published: 26-May-2004; LatestRevisionDate: 06-Jun-2005; LatestRevisionNote: Stylized 3D Model Added.; DatasheetVersion: rev2.6, Nov-2000; PackageVersion: rev1.7, Oct-2001; PackageReference: PSDIP32; Publisher: Altium Limited; PackageDescription: DIP, Plastic Shrink; 32 Leads; Row Spacing 10.16 mm; Pitch 1.78 mm; ComponentLink1Description: Manufacturer Link; ComponentLink1URL: http://www.st.com/; ComponentLink2Description: Datasheet; ComponentLink2URL: http://www.st.com/stonline/products/literature/ds/6815/st72215g2.pdf
footprint PSDIP32 (DIP, Plastic Shrink; 32 Leads; Row Spacing 10.16 mm; Pitch 1.78 mm)
3D model PSDIP32 (DIP, Plastic Shrink; 32 Leads; Row Spacing 10.16 mm; Pitch 1.78 mm)
pins: 1 ~{RESET} (io), 2 OSC1 (in), 3 OSC2 (out), 4 PB7/~{SS} (io), 5 PB6/SCK/ISPCLK (io), 6 PB5/MISO/ISPDATA (io), 7 PB4/MOSI (io), 8 NC, 9 NC, 10 PB3/OCMP2_A (io), 11 PB2/ICAP2_A (io), 12 PB1/OCMP1_A (io), 13 PB0/ICAP1_A (io), 14 PC5/EXTCLK_A/AIN5 (io), 15 PC4/OCMP2_B/AIN4 (io), 16 PC3/ICAP2_B/AIN3 (io), 17 PC2/MCO/AIN2 (io), 18 PC1/OCMP1_B/AIN1 (io), 19 PC0/ICAP1_B/AIN0 (io), 20 PA7 (HS) (io), 21 PA6 (HS)/SDAI (io), 22 PA5 (HS) (io), 23 PA4 (HS)/SCLI (io), 24 NC, 25 NC, 26 PA3 (HS) (io), 27 PA2 (HS) (io), 28 PA1 (HS) (io), 29 PA0 (HS) (io), 30 ISPSEL (in), 31 VSS (power), 32 VDD (power)

## ST72215G2B3
designator U?
8-Bit 8k ROM MCU, 256b RAM, WDG, ADC, 16-Bit Timers, SPI Interface, 32-Pin PDIP, Automotive; Note: Pins 4-7, 14-23 and 26-29 are External Interrupt (EI) pins.; Published: 26-May-2004; LatestRevisionDate: 06-Jun-2005; LatestRevisionNote: Stylized 3D Model Added.; DatasheetVersion: rev2.6, Nov-2000; PackageVersion: rev1.7, Oct-2001; PackageReference: PSDIP32; Publisher: Altium Limited; PackageDescription: DIP, Plastic Shrink; 32 Leads; Row Spacing 10.16 mm; Pitch 1.78 mm; ComponentLink1Description: Manufacturer Link; ComponentLink1URL: http://www.st.com/; ComponentLink2Description: Datasheet; ComponentLink2URL: http://www.st.com/stonline/products/literature/ds/6815/st72215g2.pdf
footprint PSDIP32 (DIP, Plastic Shrink; 32 Leads; Row Spacing 10.16 mm; Pitch 1.78 mm)
3D model PSDIP32 (DIP, Plastic Shrink; 32 Leads; Row Spacing 10.16 mm; Pitch 1.78 mm)
pins: 1 ~{RESET} (io), 2 OSC1 (in), 3 OSC2 (out), 4 PB7/~{SS} (io), 5 PB6/SCK/ISPCLK (io), 6 PB5/MISO/ISPDATA (io), 7 PB4/MOSI (io), 8 NC, 9 NC, 10 PB3/OCMP2_A (io), 11 PB2/ICAP2_A (io), 12 PB1/OCMP1_A (io), 13 PB0/ICAP1_A (io), 14 PC5/EXTCLK_A/AIN5 (io), 15 PC4/OCMP2_B/AIN4 (io), 16 PC3/ICAP2_B/AIN3 (io), 17 PC2/MCO/AIN2 (io), 18 PC1/OCMP1_B/AIN1 (io), 19 PC0/ICAP1_B/AIN0 (io), 20 PA7 (HS) (io), 21 PA6 (HS)/SDAI (io), 22 PA5 (HS) (io), 23 PA4 (HS)/SCLI (io), 24 NC, 25 NC, 26 PA3 (HS) (io), 27 PA2 (HS) (io), 28 PA1 (HS) (io), 29 PA0 (HS) (io), 30 ISPSEL (in), 31 VSS (power), 32 VDD (power)

## ST72215G2B6
designator U?
8-Bit 8k ROM MCU, 256b RAM, WDG, ADC, 16-Bit Timers, SPI Interface, 32-Pin PDIP, Industrial; Note: Pins 4-7, 14-23 and 26-29 are External Interrupt (EI) pins.; Published: 26-May-2004; LatestRevisionDate: 06-Jun-2005; LatestRevisionNote: Stylized 3D Model Added.; DatasheetVersion: rev2.6, Nov-2000; PackageVersion: rev1.7, Oct-2001; PackageReference: PSDIP32; Publisher: Altium Limited; PackageDescription: DIP, Plastic Shrink; 32 Leads; Row Spacing 10.16 mm; Pitch 1.78 mm; ComponentLink1Description: Manufacturer Link; ComponentLink1URL: http://www.st.com/; ComponentLink2Description: Datasheet; ComponentLink2URL: http://www.st.com/stonline/products/literature/ds/6815/st72215g2.pdf
footprint PSDIP32 (DIP, Plastic Shrink; 32 Leads; Row Spacing 10.16 mm; Pitch 1.78 mm)
3D model PSDIP32 (DIP, Plastic Shrink; 32 Leads; Row Spacing 10.16 mm; Pitch 1.78 mm)
pins: 1 ~{RESET} (io), 2 OSC1 (in), 3 OSC2 (out), 4 PB7/~{SS} (io), 5 PB6/SCK/ISPCLK (io), 6 PB5/MISO/ISPDATA (io), 7 PB4/MOSI (io), 8 NC, 9 NC, 10 PB3/OCMP2_A (io), 11 PB2/ICAP2_A (io), 12 PB1/OCMP1_A (io), 13 PB0/ICAP1_A (io), 14 PC5/EXTCLK_A/AIN5 (io), 15 PC4/OCMP2_B/AIN4 (io), 16 PC3/ICAP2_B/AIN3 (io), 17 PC2/MCO/AIN2 (io), 18 PC1/OCMP1_B/AIN1 (io), 19 PC0/ICAP1_B/AIN0 (io), 20 PA7 (HS) (io), 21 PA6 (HS)/SDAI (io), 22 PA5 (HS) (io), 23 PA4 (HS)/SCLI (io), 24 NC, 25 NC, 26 PA3 (HS) (io), 27 PA2 (HS) (io), 28 PA1 (HS) (io), 29 PA0 (HS) (io), 30 ISPSEL (in), 31 VSS (power), 32 VDD (power)

## ST72215G2M1
designator U?
8-Bit 8k ROM MCU, 256b RAM, WDG, ADC, 16-Bit Timers, SPI Interface, 28-Pin SOIC, Standard; Note: Pins 4-25 are External Interrupt (EI) pins.; Published: 26-May-2004; LatestRevisionDate: 13-Apr-2006; LatestRevisionNote: IPC-7351 Footprint Added.; DatasheetVersion: rev2.6, Nov-2000; PackageVersion: Jul-2001; PackageReference: SO28; Publisher: Altium Limited; PackageDescription: 28-Pin Plastic Small Outline Integrated Circuit 1.27 mm Pitch; ComponentLink1Description: Manufacturer Link; ComponentLink1URL: http://www.st.com/; ComponentLink2Description: Datasheet; ComponentLink2URL: http://www.st.com/stonline/products/literature/ds/6815/st72215g2.pdf
footprint SO28_N (SOIC, 28-Leads, Body 17.9x7.5mm, Pitch 1.27mm, IPC Medium Density)
footprint SO28_L (SOIC, 28-Leads, Body 17.9x7.5mm, Pitch 1.27mm, IPC High Density)
footprint SO28_M (SOIC, 28-Leads, Body 17.9x7.5mm, Pitch 1.27mm, IPC Low Density)
3D model SO28 (28-Pin Plastic Small Outline Integrated Circuit 1.27 mm Pitch)
pins: 1 ~{RESET} (io), 2 OSC1 (in), 3 OSC2 (out), 4 PB7/~{SS} (io), 5 PB6/SCK/ISPCLK (io), 6 PB5/MISO/ISPDATA (io), 7 PB4/MOSI (io), 8 PB3/OCMP2_A (io), 9 PB2/ICAP2_A (io), 10 PB1/OCMP1_A (io), 11 PB0/ICAP1_A (io), 12 PC5/EXTCLK_A/AIN5 (io), 13 PC4/OCMP2_B/AIN4 (io), 14 PC3/ICAP2_B/AIN3 (io), 15 PC2/MCO/AIN2 (io), 16 PC1/OCMP1_B/AIN1 (io), 17 PC0/ICAP1_B/AIN0 (io), 18 PA7 (HS) (io), 19 PA6 (HS)/SDAI (io), 20 PA5 (HS) (io), 21 PA4 (HS)/SCLI (io), 22 PA3 (HS) (io), 23 PA2 (HS) (io), 24 PA1 (HS) (io), 25 PA0 (HS) (io), 26 ISPSEL (in), 27 VSS (power), 28 VDD (power)

## ST72215G2M3
designator U?
8-Bit 8k ROM MCU, 256b RAM, WDG, ADC, 16-Bit Timers, SPI Interface, 28-Pin SOIC, Automotive; Note: Pins 4-25 are External Interrupt (EI) pins.; Published: 26-May-2004; LatestRevisionDate: 13-Apr-2006; LatestRevisionNote: IPC-7351 Footprint Added.; DatasheetVersion: rev2.6, Nov-2000; PackageVersion: Jul-2001; PackageReference: SO28; Publisher: Altium Limited; PackageDescription: 28-Pin Plastic Small Outline Integrated Circuit 1.27 mm Pitch; ComponentLink1Description: Manufacturer Link; ComponentLink1URL: http://www.st.com/; ComponentLink2Description: Datasheet; ComponentLink2URL: http://www.st.com/stonline/products/literature/ds/6815/st72215g2.pdf
footprint SO28_N (SOIC, 28-Leads, Body 17.9x7.5mm, Pitch 1.27mm, IPC Medium Density)
footprint SO28_L (SOIC, 28-Leads, Body 17.9x7.5mm, Pitch 1.27mm, IPC High Density)
footprint SO28_M (SOIC, 28-Leads, Body 17.9x7.5mm, Pitch 1.27mm, IPC Low Density)
3D model SO28 (28-Pin Plastic Small Outline Integrated Circuit 1.27 mm Pitch)
pins: 1 ~{RESET} (io), 2 OSC1 (in), 3 OSC2 (out), 4 PB7/~{SS} (io), 5 PB6/SCK/ISPCLK (io), 6 PB5/MISO/ISPDATA (io), 7 PB4/MOSI (io), 8 PB3/OCMP2_A (io), 9 PB2/ICAP2_A (io), 10 PB1/OCMP1_A (io), 11 PB0/ICAP1_A (io), 12 PC5/EXTCLK_A/AIN5 (io), 13 PC4/OCMP2_B/AIN4 (io), 14 PC3/ICAP2_B/AIN3 (io), 15 PC2/MCO/AIN2 (io), 16 PC1/OCMP1_B/AIN1 (io), 17 PC0/ICAP1_B/AIN0 (io), 18 PA7 (HS) (io), 19 PA6 (HS)/SDAI (io), 20 PA5 (HS) (io), 21 PA4 (HS)/SCLI (io), 22 PA3 (HS) (io), 23 PA2 (HS) (io), 24 PA1 (HS) (io), 25 PA0 (HS) (io), 26 ISPSEL (in), 27 VSS (power), 28 VDD (power)

## ST72215G2M6
designator U?
8-Bit 8k ROM MCU, 256b RAM, WDG, ADC, 16-Bit Timers, SPI Interface, 28-Pin SOIC, Industrial; Note: Pins 4-25 are External Interrupt (EI) pins.; Published: 26-May-2004; LatestRevisionDate: 13-Apr-2006; LatestRevisionNote: IPC-7351 Footprint Added.; DatasheetVersion: rev2.6, Nov-2000; PackageVersion: Jul-2001; PackageReference: SO28; Publisher: Altium Limited; PackageDescription: 28-Pin Plastic Small Outline Integrated Circuit 1.27 mm Pitch; ComponentLink1Description: Manufacturer Link; ComponentLink1URL: http://www.st.com/; ComponentLink2Description: Datasheet; ComponentLink2URL: http://www.st.com/stonline/products/literature/ds/6815/st72215g2.pdf
footprint SO28_N (SOIC, 28-Leads, Body 17.9x7.5mm, Pitch 1.27mm, IPC Medium Density)
footprint SO28_L (SOIC, 28-Leads, Body 17.9x7.5mm, Pitch 1.27mm, IPC High Density)
footprint SO28_M (SOIC, 28-Leads, Body 17.9x7.5mm, Pitch 1.27mm, IPC Low Density)
3D model SO28 (28-Pin Plastic Small Outline Integrated Circuit 1.27 mm Pitch)
pins: 1 ~{RESET} (io), 2 OSC1 (in), 3 OSC2 (out), 4 PB7/~{SS} (io), 5 PB6/SCK/ISPCLK (io), 6 PB5/MISO/ISPDATA (io), 7 PB4/MOSI (io), 8 PB3/OCMP2_A (io), 9 PB2/ICAP2_A (io), 10 PB1/OCMP1_A (io), 11 PB0/ICAP1_A (io), 12 PC5/EXTCLK_A/AIN5 (io), 13 PC4/OCMP2_B/AIN4 (io), 14 PC3/ICAP2_B/AIN3 (io), 15 PC2/MCO/AIN2 (io), 16 PC1/OCMP1_B/AIN1 (io), 17 PC0/ICAP1_B/AIN0 (io), 18 PA7 (HS) (io), 19 PA6 (HS)/SDAI (io), 20 PA5 (HS) (io), 21 PA4 (HS)/SCLI (io), 22 PA3 (HS) (io), 23 PA2 (HS) (io), 24 PA1 (HS) (io), 25 PA0 (HS) (io), 26 ISPSEL (in), 27 VSS (power), 28 VDD (power)

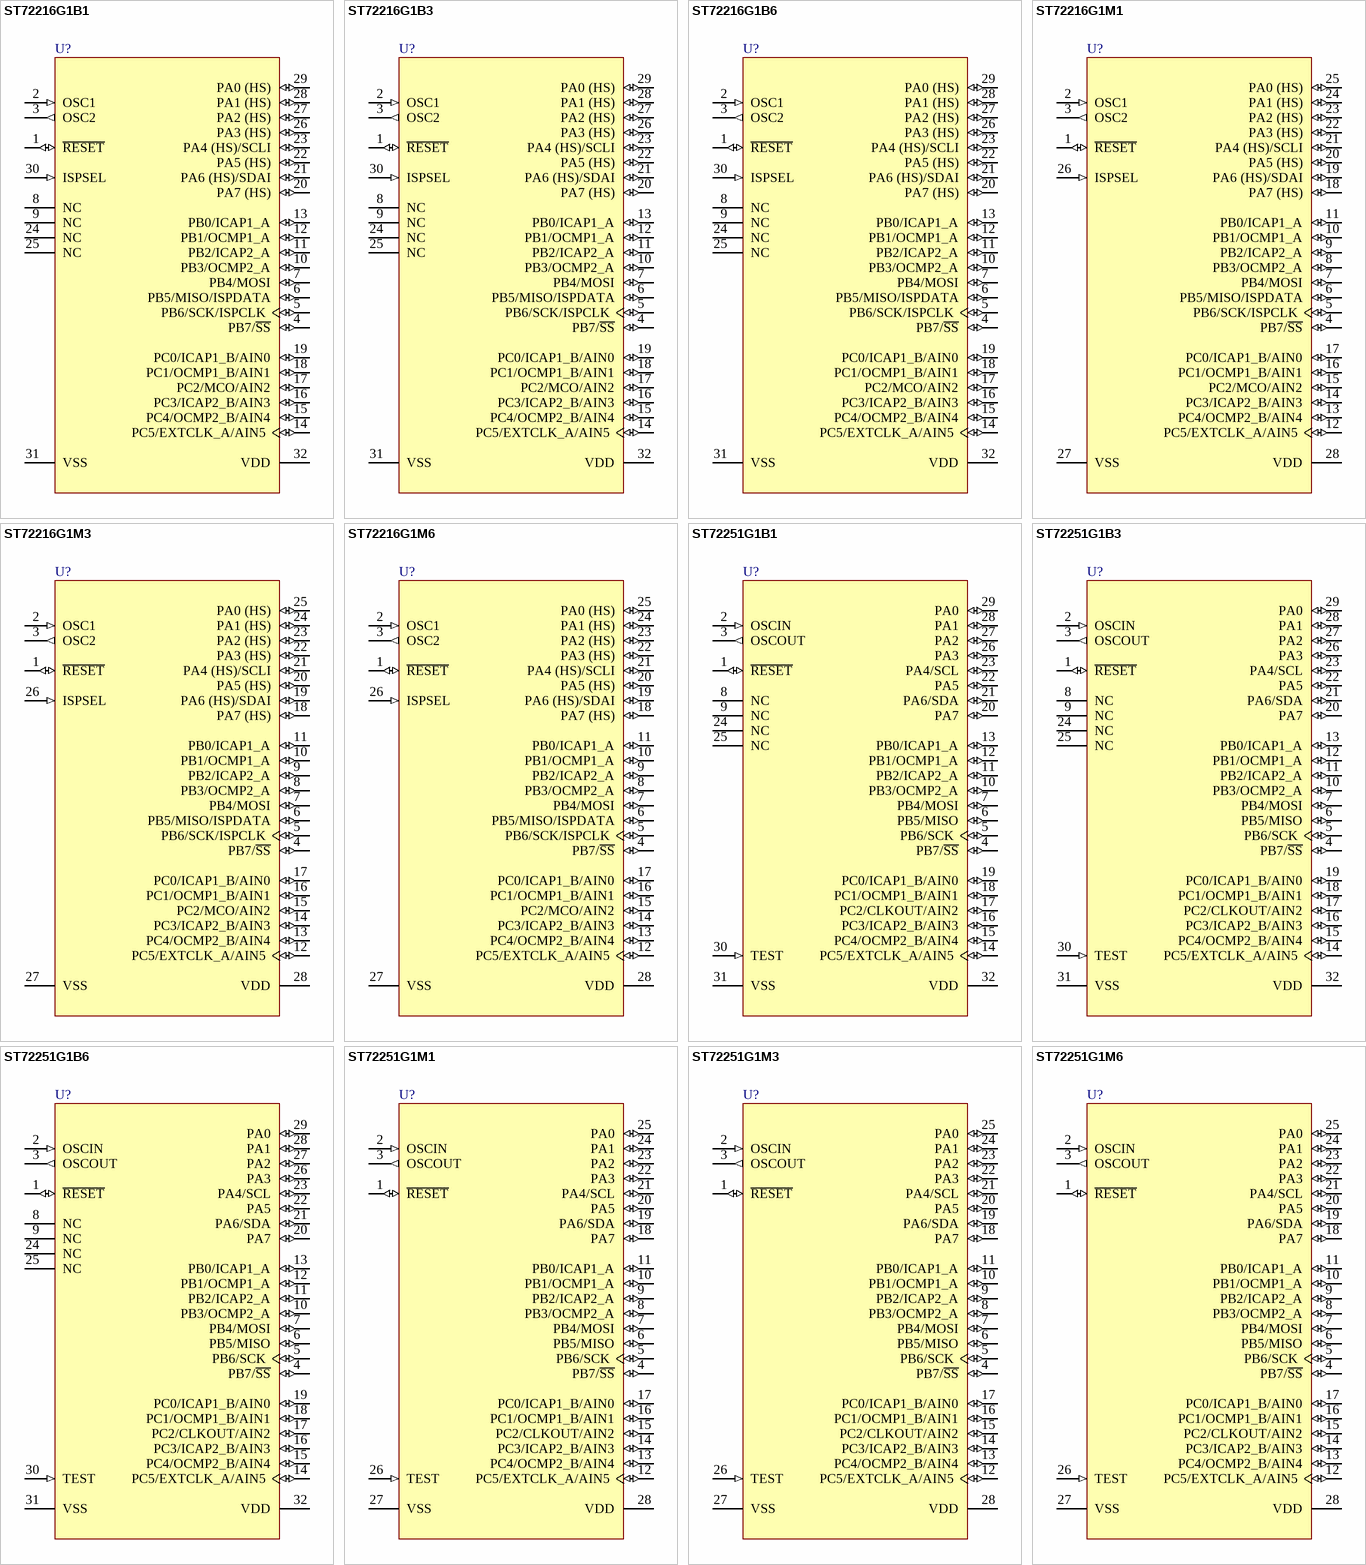
[diagram p100: symbols ST72216G1B1 to ST72251G1M6]

## ST72216G1B1
designator U?
8-Bit 4k ROM MCU, 256b RAM, WDG, ADC, 16-Bit Timer, SPI Interface, 32-Pin PDIP, Standard; Note: Pins 4-7, 14-23 and 26-29 are External Interrupt (EI) pins.; Published: 26-May-2004; LatestRevisionDate: 06-Jun-2005; LatestRevisionNote: Stylized 3D Model Added.; DatasheetVersion: rev2.6, Nov-2000; PackageVersion: rev1.7, Oct-2001; PackageReference: PSDIP32; Publisher: Altium Limited; PackageDescription: DIP, Plastic Shrink; 32 Leads; Row Spacing 10.16 mm; Pitch 1.78 mm; ComponentLink1Description: Manufacturer Link; ComponentLink1URL: http://www.st.com/; ComponentLink2Description: Datasheet; ComponentLink2URL: http://www.st.com/stonline/products/literature/ds/6815/st72216g1.pdf
footprint PSDIP32 (DIP, Plastic Shrink; 32 Leads; Row Spacing 10.16 mm; Pitch 1.78 mm)
3D model PSDIP32 (DIP, Plastic Shrink; 32 Leads; Row Spacing 10.16 mm; Pitch 1.78 mm)
pins: 1 ~{RESET} (io), 2 OSC1 (in), 3 OSC2 (out), 4 PB7/~{SS} (io), 5 PB6/SCK/ISPCLK (io), 6 PB5/MISO/ISPDATA (io), 7 PB4/MOSI (io), 8 NC, 9 NC, 10 PB3/OCMP2_A (io), 11 PB2/ICAP2_A (io), 12 PB1/OCMP1_A (io), 13 PB0/ICAP1_A (io), 14 PC5/EXTCLK_A/AIN5 (io), 15 PC4/OCMP2_B/AIN4 (io), 16 PC3/ICAP2_B/AIN3 (io), 17 PC2/MCO/AIN2 (io), 18 PC1/OCMP1_B/AIN1 (io), 19 PC0/ICAP1_B/AIN0 (io), 20 PA7 (HS) (io), 21 PA6 (HS)/SDAI (io), 22 PA5 (HS) (io), 23 PA4 (HS)/SCLI (io), 24 NC, 25 NC, 26 PA3 (HS) (io), 27 PA2 (HS) (io), 28 PA1 (HS) (io), 29 PA0 (HS) (io), 30 ISPSEL (in), 31 VSS (power), 32 VDD (power)

## ST72216G1B3
designator U?
8-Bit 4k ROM MCU, 256b RAM, WDG, ADC, 16-Bit Timer, SPI Interface, 32-Pin PDIP, Automotive; Note: Pins 4-7, 14-23 and 26-29 are External Interrupt (EI) pins.; Published: 26-May-2004; LatestRevisionDate: 06-Jun-2005; LatestRevisionNote: Stylized 3D Model Added.; DatasheetVersion: rev2.6, Nov-2000; PackageVersion: rev1.7, Oct-2001; PackageReference: PSDIP32; Publisher: Altium Limited; PackageDescription: DIP, Plastic Shrink; 32 Leads; Row Spacing 10.16 mm; Pitch 1.78 mm; ComponentLink1Description: Manufacturer Link; ComponentLink1URL: http://www.st.com/; ComponentLink2Description: Datasheet; ComponentLink2URL: http://www.st.com/stonline/products/literature/ds/6815/st72216g1.pdf
footprint PSDIP32 (DIP, Plastic Shrink; 32 Leads; Row Spacing 10.16 mm; Pitch 1.78 mm)
3D model PSDIP32 (DIP, Plastic Shrink; 32 Leads; Row Spacing 10.16 mm; Pitch 1.78 mm)
pins: 1 ~{RESET} (io), 2 OSC1 (in), 3 OSC2 (out), 4 PB7/~{SS} (io), 5 PB6/SCK/ISPCLK (io), 6 PB5/MISO/ISPDATA (io), 7 PB4/MOSI (io), 8 NC, 9 NC, 10 PB3/OCMP2_A (io), 11 PB2/ICAP2_A (io), 12 PB1/OCMP1_A (io), 13 PB0/ICAP1_A (io), 14 PC5/EXTCLK_A/AIN5 (io), 15 PC4/OCMP2_B/AIN4 (io), 16 PC3/ICAP2_B/AIN3 (io), 17 PC2/MCO/AIN2 (io), 18 PC1/OCMP1_B/AIN1 (io), 19 PC0/ICAP1_B/AIN0 (io), 20 PA7 (HS) (io), 21 PA6 (HS)/SDAI (io), 22 PA5 (HS) (io), 23 PA4 (HS)/SCLI (io), 24 NC, 25 NC, 26 PA3 (HS) (io), 27 PA2 (HS) (io), 28 PA1 (HS) (io), 29 PA0 (HS) (io), 30 ISPSEL (in), 31 VSS (power), 32 VDD (power)

## ST72216G1B6
designator U?
8-Bit 4k ROM MCU, 256b RAM, WDG, ADC, 16-Bit Timer, SPI Interface, 32-Pin PDIP, Industrial; Note: Pins 4-7, 14-23 and 26-29 are External Interrupt (EI) pins.; Published: 26-May-2004; LatestRevisionDate: 06-Jun-2005; LatestRevisionNote: Stylized 3D Model Added.; DatasheetVersion: rev2.6, Nov-2000; PackageVersion: rev1.7, Oct-2001; PackageReference: PSDIP32; Publisher: Altium Limited; PackageDescription: DIP, Plastic Shrink; 32 Leads; Row Spacing 10.16 mm; Pitch 1.78 mm; ComponentLink1Description: Manufacturer Link; ComponentLink1URL: http://www.st.com/; ComponentLink2Description: Datasheet; ComponentLink2URL: http://www.st.com/stonline/products/literature/ds/6815/st72216g1.pdf
footprint PSDIP32 (DIP, Plastic Shrink; 32 Leads; Row Spacing 10.16 mm; Pitch 1.78 mm)
3D model PSDIP32 (DIP, Plastic Shrink; 32 Leads; Row Spacing 10.16 mm; Pitch 1.78 mm)
pins: 1 ~{RESET} (io), 2 OSC1 (in), 3 OSC2 (out), 4 PB7/~{SS} (io), 5 PB6/SCK/ISPCLK (io), 6 PB5/MISO/ISPDATA (io), 7 PB4/MOSI (io), 8 NC, 9 NC, 10 PB3/OCMP2_A (io), 11 PB2/ICAP2_A (io), 12 PB1/OCMP1_A (io), 13 PB0/ICAP1_A (io), 14 PC5/EXTCLK_A/AIN5 (io), 15 PC4/OCMP2_B/AIN4 (io), 16 PC3/ICAP2_B/AIN3 (io), 17 PC2/MCO/AIN2 (io), 18 PC1/OCMP1_B/AIN1 (io), 19 PC0/ICAP1_B/AIN0 (io), 20 PA7 (HS) (io), 21 PA6 (HS)/SDAI (io), 22 PA5 (HS) (io), 23 PA4 (HS)/SCLI (io), 24 NC, 25 NC, 26 PA3 (HS) (io), 27 PA2 (HS) (io), 28 PA1 (HS) (io), 29 PA0 (HS) (io), 30 ISPSEL (in), 31 VSS (power), 32 VDD (power)